# Altium schematic symbol library Schlib_OtherComponents.SchLib: 128 symbols
Pins are listed as number, name and electrical type; pins without a type are passive.

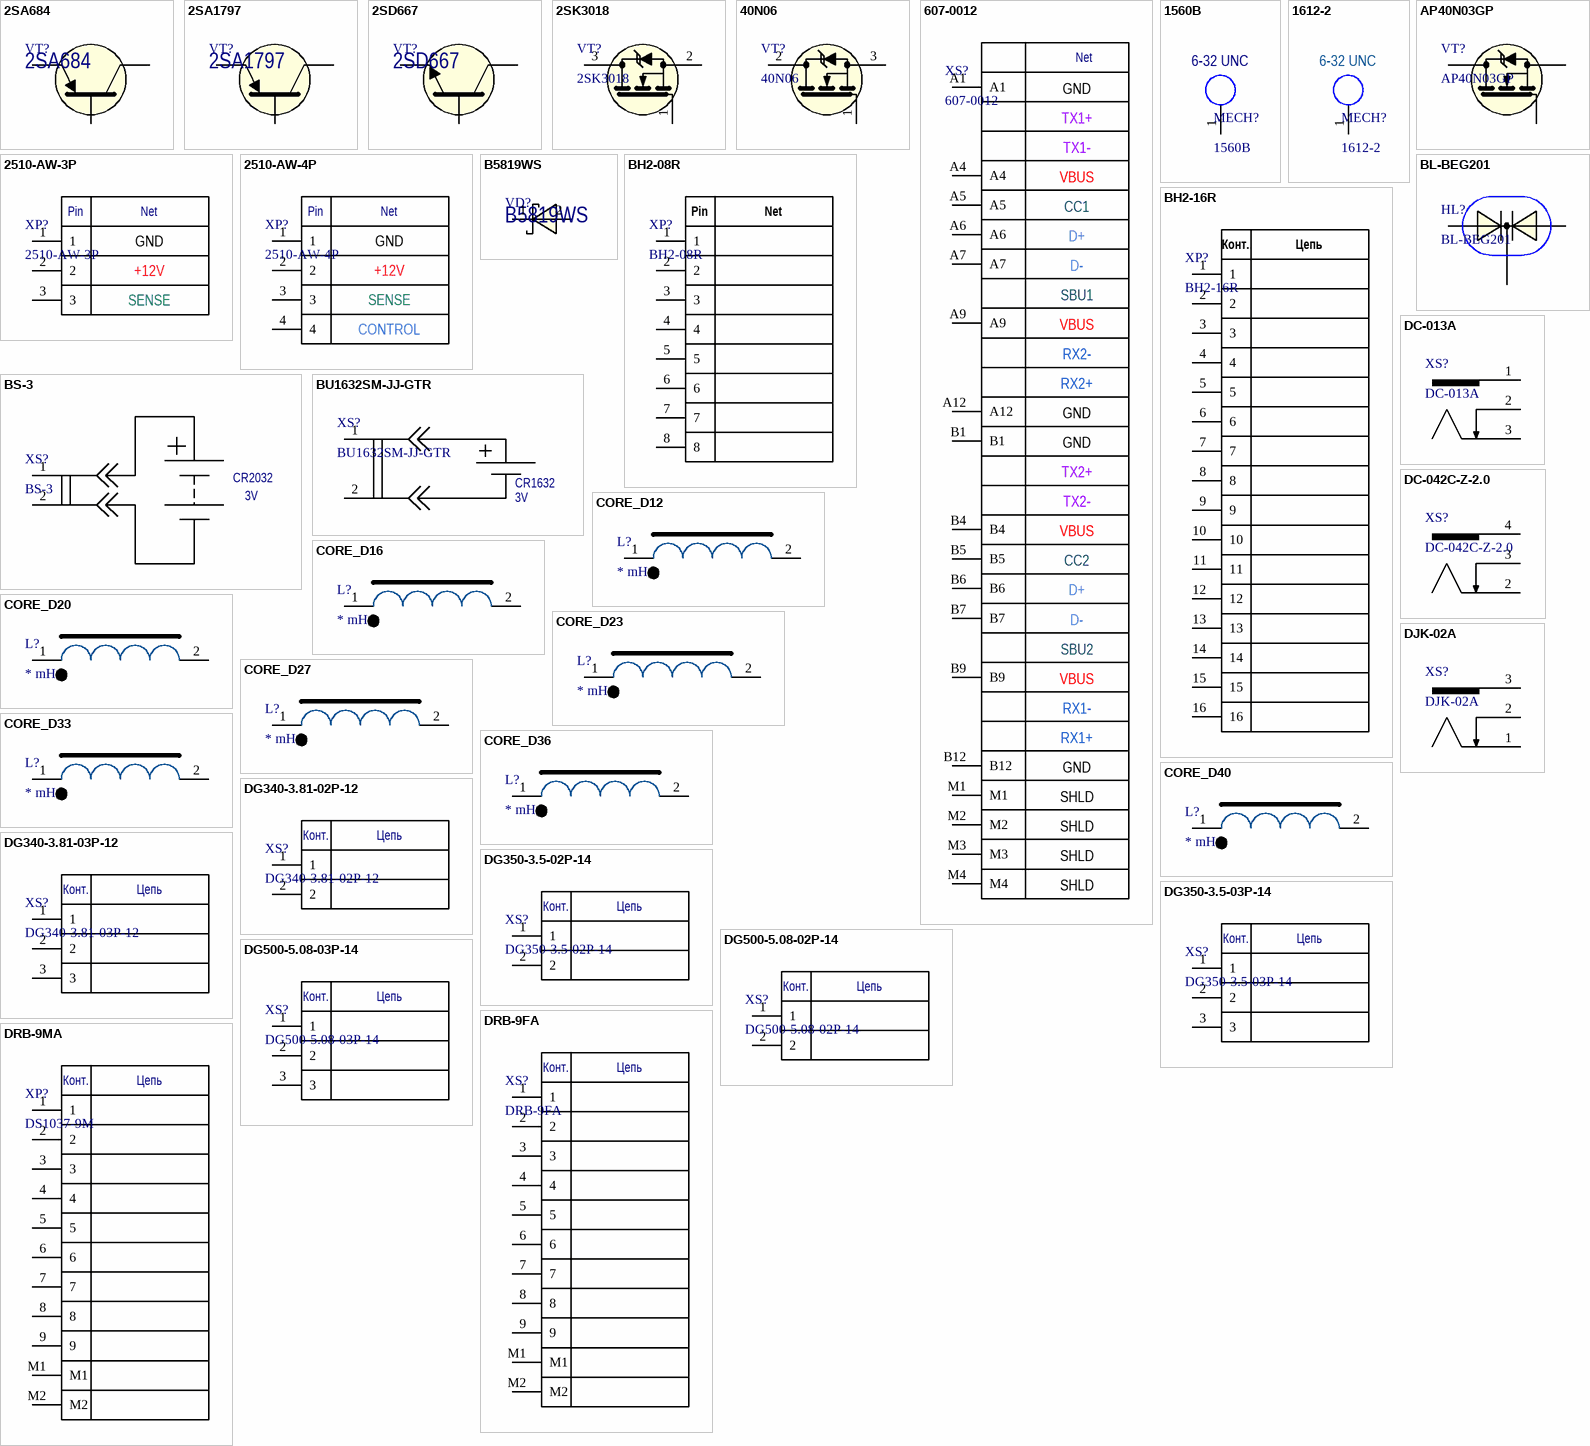
[diagram p0: symbols 2SA684 to DRB-9MA]

## 2SA684
designator VT?
General Purpose p-n-p Transistors -60V, -1A; Manufacturer: Secos; Package: TO-92L; Part Number: 2SA684
footprint TO-92L (VERTICAL,LINE)
pins: 1 E, 2 C, 3 B

## 2SA1797
designator VT?
General Purpose p-n-p Transistors -50V, -1A; Manufacturer: Secos; Package: SOT-89; Part Number: 2SA1797
footprint SOT89-3 (SOT89, 3-Leads, Body 4.50x2.45mm, Pitch 1.50mm, Lead Span 4.1mm, IPC Medium Density)
pins: 1 B, 2 C, 3 E

## 2SD667
designator VT?
General Purpose n-p-n Transistors 120V, 1A; Manufacturer: Secos; Package: TO-92L; Part Number: 2SD667
footprint TO-92L (VERTICAL,LINE)
pins: 1 E, 2 C, 3 B

## 2SK3018
designator VT?
N-Channel MOSFET,  30V, 100mA; Manufacturer: MCC; Part Number: 2SK3018; Package: SOT23-3
footprint SOT23-3 (SOT23, 6-Leads, Body 2.90x2.80mm, Pitch 0.95mm, IPC Medium Density)
pins: 1 G, 2 S, 3 D

## 40N06
designator VT?
N-Channel MOSFET,  60V, 40A; Manufacturer: UMW; Part Number: 40N06; Package: TO252-3
footprint TO-252-3 (D-PAK, 3-Pads, Body 6.15x6.66mm (max), IPC Medium Density)
pins: 1 G, 2 D, 3 S

## 607-0012
designator XS?
USB 2.0 Type C Female, 14P, 5A, 90° PCB Flag Mount TH. Repl KUSBX-SL-CS1N14-B; Manufacturer: MPSI; Part Number: 607-0012
footprint 607-0012 (USB 2.0 Type C Connector)
pins: A1, A4, A5, A6, A7, A9, A12, B1, B4, B5, B6, B7, B9, B12, M1, M2, M3, M4
text: Net; GND; TX1+; TX1-; VBUS; CC1; D+; D-; SBU1; RX2-; RX2+; TX2+; TX2-; CC2; SBU2; RX1-; RX1+; SHLD

## 1560B
designator MECH?  Thread: 6-32 UNC
Swage Threaded Standoffs 6-32 Thread x 0.250, H = 0.125; Manufacturer: Keystone; Part Number: 1560B
footprint 1560B (Swage Threaded Standoffs 6-32 UNC)
pins: 1

## 1612-2
designator MECH?  Thread: 6-32 UNC
Swage Threaded Standoffs 6-32 Thread x 0.250, H = 0.187; Manufacturer: Keystone; Part Number: 1612-2
footprint 1612-2 (Swage Threaded Standoffs 6-32 UNC)
footprint 1612-2_SLOT (Swage Threaded Standoffs 6-32 UNC)
pins: 1

## 2510-AW-3P
designator XP?
Reverse 3 pin fan connector; Part Number: 2510-AW-3P
footprint 2510-AW-3P
pins: 1, 2, 3
text: Pin; Net; GND; +12V; SENSE

## 2510-AW-4P
designator XP?
Reverse 4 pin fan connector; Part Number: 2510-AW-4P
footprint 2510-AW-4P
pins: 1, 2, 3, 4
text: Pin; Net; GND; +12V; SENSE; CONTROL

## AP40N03GP
designator VT?
N-Channel MOSFET,  30V, 40A; Manufacturer: Advanced Power Electronics Corp.; Part Number: AP40N03GP; Package: TO220-3
footprint TO-220-3
footprint TO-220-3 (hole mounting)
footprint TO-220A-3
footprint TO-220A-3 (HORIZONTAL)
pins: 1 G, 2 D, 3 S

## B5819WS
designator VD?
1A Schottky barrier rectifier; Manufacturer: SUNCOYJ; Package: SOD323; Part Number: B5819WS
footprint SOD-323
pins: 1, 2

## BH2-08R
designator XP?
BH2-08R pitch 2.00 mm; Manufacturer: RUICHI; Part Number: BH2-08R
footprint BH2-08R
pins: 1, 2, 3, 4, 5, 6, 7, 8
text: Pin; Net

## BH2-16R
designator XP?
BH2-16R pitch 2.00 mm; Manufacturer: RUICHI; Part Number: BH2-16R
footprint BH2-16R
pins: 1, 2, 3, 4, 5, 6, 7, 8, 9, 10, 11, 12, 13, 14, 15, 16
text: Конт.; Цепь

## BL-BEG201
designator HL?
Part Number: BL-BEG201
pins: 1, 2, 3

## BS-3
designator XS?  Size: CR2032  Voltage: 3V
Part Number: BS-3
footprint BS-3 (CR2032 battery holder)
pins: 1, 2

## BU1632SM-JJ-GTR
designator XS?  Size: CR1632  Voltage: 3V
CR1632 Holder; Manufacturer: Memory Protection Devices; Part Number: BU1632SM-JJ-GTR
footprint BU1632SM (CR1632 Holder)
pins: 1, 2

## CORE_D12
designator L?, comment * mH
Ferrite Core D12.7/7.62/4.75 mm; Core: D12; Value: * mH
footprint CORE_D12_GB (Core D12.7/7.62/4.75mm, Green-Blue)
footprint CORE_D12_YW (Core D12.7/7.62/4.75mm, Yellow-White)
pins: 1, 2

## CORE_D16
designator L?, comment * mH
Ferrite Core D16.6/10.2/6.35 mm; Core: D16; Value: * mH
footprint CORE_D16_GB (Core D16.6/10.2/6.35mm, Green-Blue)
footprint CORE_D16_YW (Core D16.6/10.2/6.35mm, Yellow-White)
pins: 1, 2

## CORE_D20
designator L?, comment * mH
Ferrite Core D20.3/12.7/6.35 mm; Core: D20; Value: * mH
footprint CORE_D20_GB (Core D20.3/12.7/6.35mm, Green-Blue)
footprint CORE_D20_YW (Core D20.3/12.7/6.35mm, Yellow-White)
pins: 1, 2

## CORE_D23
designator L?, comment * mH
Ferrite Core D22.9/14.0/7.62 mm; Core: D23; Value: * mH
footprint CORE_D23_GB (Core D22.9/14.0/7.62mm, Green-Blue)
footprint CORE_D23_YW (Core D22.9/14.0/7.62mm, Yellow-White)
pins: 1, 2

## CORE_D27
designator L?, comment * mH
Ferrite Core D26.9/14.7/11.2 mm; Core: D27; Value: * mH
footprint CORE_D27_GB (Core D26.9/14.7/11.2mm, Green-Blue)
footprint CORE_D27_YW (Core D26.9/14.7/11.2mm, Yellow-White)
pins: 1, 2

## CORE_D33
designator L?, comment * mH
Ferrite Core D32.8/20.1/10.7 mm; Core: D33; Value: * mH
footprint CORE_D33_GB (Core D32.8/20.1/10.7mm, Green-Blue)
footprint CORE_D33_YW (Core D32.8/20.1/10.7mm, Yellow-White)
pins: 1, 2

## CORE_D36
designator L?, comment * mH
Ferrite Core D35.8/22.4/10.5 mm; Core: D36; Value: * mH
footprint CORE_D36_GB (Core D35.8/22.4/10.5mm, Green-Blue)
footprint CORE_D36_YW (Core D35.8/22.4/10.5mm, Yellow-White)
pins: 1, 2

## CORE_D40
designator L?, comment * mH
Ferrite Core D39.9/24.1/14.5 mm; Core: D40; Value: * mH
footprint CORE_D40_GB (Core D39.9/24.1/14.5mm, Green-Blue)
footprint CORE_D40_YW (Core D39.9/24.1/14.5mm, Yellow-White)
pins: 1, 2

## DC-013A
designator XS?
Straight DC Power Receptacle Connector 2mm x 6.4mm; Part Number: DC-013A
footprint DC-013A
pins: 1, 2, 3

## DC-042C-Z-2.0
designator XS?
Shrouded DC Power Receptacle 2mm 6.3mm 8A 24V; Manufacturer: XKB Connectivity; Part Number: DC-042C-Z-2.0
footprint DC-042C-Z-2.0
pins: 2, 3, 4

## DG340-3.81-02P-12
designator XS?
2-way screw terminal, pitch 150mils (3.81mm); Manufacturer: DEGSON; Part Number: DG340-3.81-02P-12
footprint DG340-3.81-02P
pins: 1, 2
text: Конт.; Цепь

## DG340-3.81-03P-12
designator XS?
3-way screw terminal, pitch 150mils (3.81mm); Manufacturer: DEGSON; Part Number: DG340-3.81-03P-12
footprint DG340-3.81-03P
pins: 1, 2, 3
text: Конт.; Цепь

## DG350-3.5-02P-14
designator XS?
2-way screw terminal, pitch 3.5mm; Manufacturer: DEGSON; Part Number: DG350-3.5-02P-14
footprint DG350-3.5-02P-14
pins: 1, 2
text: Конт.; Цепь

## DG350-3.5-03P-14
designator XS?
3-way screw terminal, pitch 3.5mm; Manufacturer: DEGSON; Part Number: DG350-3.5-03P-14
footprint DG350-3.5-03P-14
pins: 1, 2, 3
text: Конт.; Цепь

## DG500-5.08-02P-14
designator XS?
2-way screw terminal, pitch 200mils (5.08mm); Manufacturer: DEGSON; Part Number: DG500-5.08-02P-14
footprint DG500-5.08-02P
pins: 1, 2
text: Конт.; Цепь

## DG500-5.08-03P-14
designator XS?
3-way screw terminal, pitch 200mils (5.08mm); Manufacturer: DEGSON; Part Number: DG500-5.08-03P-14
footprint DG500-5.08-03P
pins: 1, 2, 3
text: Конт.; Цепь

## DJK-02A
designator XS?
Part Number: DJK-02A
footprint DJK-02A
pins: 1, 2, 3

## DRB-9FA
designator XS?
Part Number: DRB-9FA
footprint DRB-9FB
pins: 1, 2, 3, 4, 5, 6, 7, 8, 9, M1, M2
text: Конт.; Цепь

## DRB-9MA
designator XP?, comment DS1037-9M
Manufacturer: Connfly Electronic; Part Number: DS1037-9M
footprint DRB- 9MA
pins: 1, 2, 3, 4, 5, 6, 7, 8, 9, M1, M2
text: Конт.; Цепь

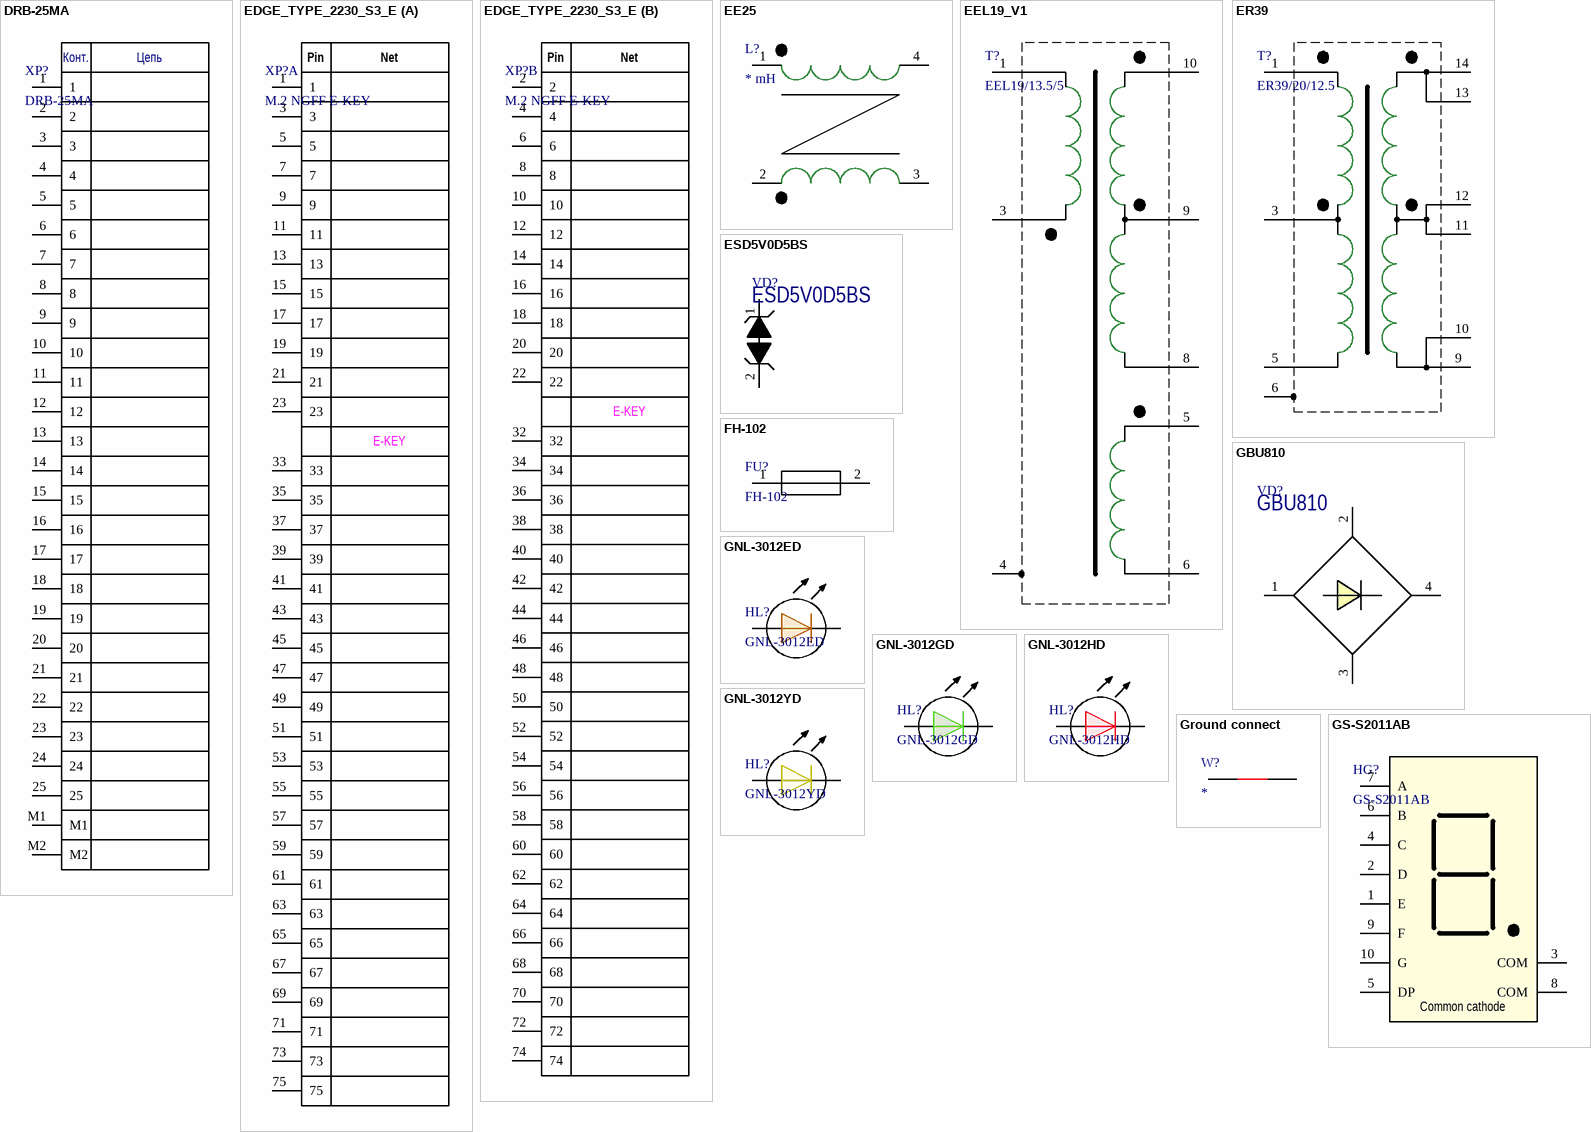
[diagram p1: symbols DRB-25MA to GS-S2011AB]

## DRB-25MA
designator XP?
Sub-D Connector 25 pin; Part Number: DRB-25MA
footprint DRB-25MA
pins: 1, 2, 3, 4, 5, 6, 7, 8, 9, 10, 11, 12, 13, 14, 15, 16, 17, 18, 19, 20, 21, 22, 23, 24, 25, M1, M2
text: Конт.; Цепь

## EDGE_TYPE_2230_S3_E
designator XP?, comment M.2 NGFF E-KEY  (no BOM)
M.2 NGFF E-KEY TYPE 2230-S3-E; Value: M.2 NGFF E-KEY
footprint EDGE_2230-S3-E (M.2 NGFF E-KEY EDGE)
part A pins: 1, 3, 5, 7, 9, 11, 13, 15, 17, 19, 21, 23, 33, 35, 37, 39, 41, 43, 45, 47, 49, 51, 53, 55, 57, 59, 61, 63, 65, 67, 69, 71, 73, 75
part B pins: 2, 4, 6, 8, 10, 12, 14, 16, 18, 20, 22, 32, 34, 36, 38, 40, 42, 44, 46, 48, 50, 52, 54, 56, 58, 60, 62, 64, 66, 68, 70, 72, 74
part A text: Pin; Net; E-KEY
part B text: Pin; Net; E-KEY

## EE25
designator L?, comment * mH
EE25 Ferrite Core inductor; Value: * mH; Core: EE25
footprint EE25/10/6 (Core EE25)
pins: 1, 2, 3, 4

## EEL19_V1
designator T?, comment EEL19/13.5/5
EEL19 Ferrite Core, 2 output; Value: EEL19/13.5/5
footprint EEL19/13.5/5 (Core EEL19)
pins: 1, 3, 4, 5, 6, 8, 9, 10

## ER39
designator T?, comment ER39/20/12.5
EE39 Ferrite Core, with footprint for ER35, EE33, EI33 etc.; Value: ER39/20/12.5
footprint ER39/20/12.5 (Core ER39)
footprint ER39/20/12.5_WITH22.5_SLOTS (Core ER39)
pins: 1, 3, 5, 6, 9, 10, 11, 12, 13, 14

## ESD5V0D5BS
designator VD?
1-Line, Bi-directional, Transient Voltage Suppressor; Manufacturer: SUNCOYJ; Package: SOD-523; Part Number: ESD5V0D5BS
footprint SOD-523
pins: 1 M, 2 AC1

## FH-102
designator FU?
Fuse holder 5.2х20mm; Package: Dragon City; Part Number: FH-102
footprint FH-102
pins: 1, 2

## GBU810
designator VD?
8A single phase bridge rectifier; Manufacturer: Diodes Incorporated; Package: GBU; Part Number: GBU810
footprint GBU810
pins: 1 M, 2 AC1, 3 AC2, 4 P

## GNL-3012ED
designator HL?
Standard Brightness 3mm LED; Manufacturer: G-Nor Optoelectronics; Color: Orange, 635 nm; Package: 3mm; Part Number: GNL-3012ED
footprint GNL-3012ED (3mm Standard Brightness LED)
pins: 1, 2

## GNL-3012GD
designator HL?
Standard Brightness 3mm LED; Manufacturer: G-Nor Optoelectronics; Color: Green, 565 nm; Package: 3mm; Part Number: GNL-3012GD
footprint GNL-3012GD (3mm Standard Brightness LED)
pins: 1, 2

## GNL-3012HD
designator HL?
Standard Brightness 3mm LED; Manufacturer: G-Nor Optoelectronics; Color: Red, 700 nm; Package: 3mm; Part Number: GNL-3012HD
footprint GNL-3012HD (3mm Standard Brightness LED)
pins: 1, 2

## GNL-3012YD
designator HL?
Standard Brightness 3mm LED; Manufacturer: G-Nor Optoelectronics; Color: Yellow, 585 nm; Package: 3mm; Part Number: GNL-3012YD
footprint GNL-3012YD (3mm Standard Brightness LED)
pins: 1, 2

## Ground connect
designator W?  (net tie, no BOM)
footprint GND_TIE
pins: 1, 2

## GS-S2011AB
designator HG?
Part Number: GS-S2011AB
footprint GS-S2011AB
pins: 1 E, 2 D, 3 COM, 4 C, 5 DP, 6 B, 7 A, 8 COM, 9 F, 10 G
text: Common cathode

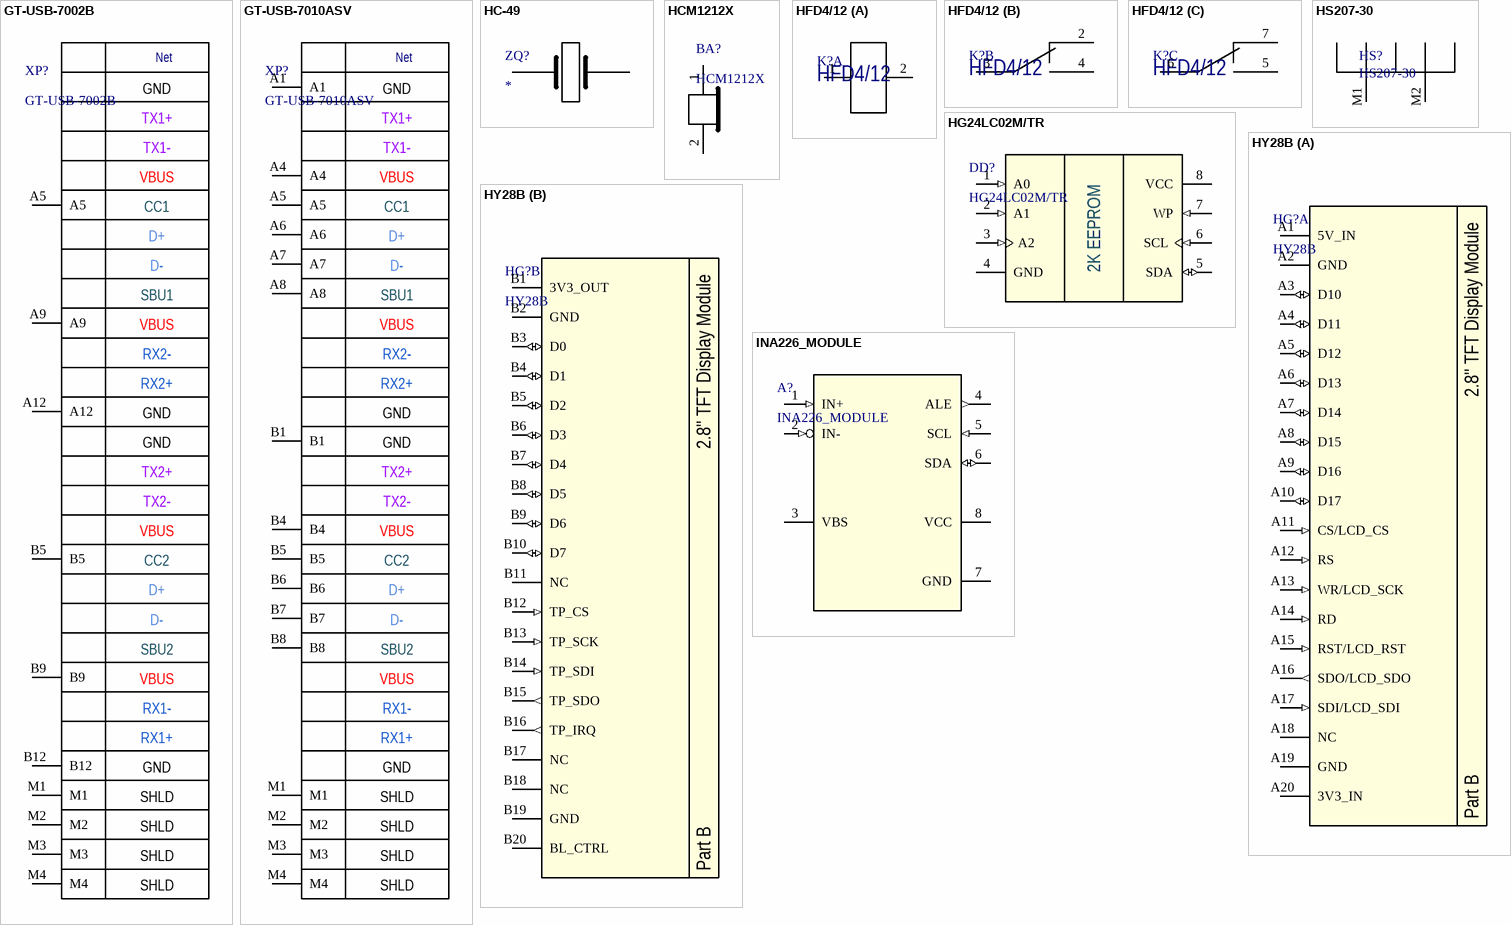
[diagram p2: symbols GT-USB-7002B to INA226_MODULE]

## GT-USB-7002B
designator XP?
USB 2.0 5A 1 Surface Mount 6P Female; Manufacturer: G-Switch; Part Number: GT-USB-7002B
footprint GT-USB-7002B (USB 2.0 TYPE C)
pins: A5, A9, A12, B5, B9, B12, M1, M2, M3, M4
text: Net; GND; TX1+; TX1-; VBUS; CC1; D+; D-; SBU1; RX2-; RX2+; TX2+; TX2-; CC2; SBU2; RX1-; RX1+; SHLD

## GT-USB-7010ASV
designator XP?
USB 2.0 Female 3A Surface 16P; Manufacturer: G-Switch; Part Number: GT-USB-7010ASV
footprint GT-USB-7010ASV (USB 2.0 TYPE C)
pins: A1, A4, A5, A6, A7, A8, B1, B4, B5, B6, B7, B8, M1, M2, M3, M4
text: Net; GND; TX1+; TX1-; VBUS; CC1; D+; D-; SBU1; RX2-; RX2+; TX2+; TX2-; CC2; SBU2; RX1-; RX1+; SHLD

## HC-49
designator ZQ?
Crystal resonator; Package: HC-49; Part Number: *
footprint HC-49/US
footprint HC-49S
footprint HC-49U (HORIZONTAL)
footprint HC-49U (HORIZONTAL, SOLDER)
footprint HC-49U (VERTICAL)
footprint HC-49/US_With_Hole
pins: 1 XTAL0, 2 XTAL1

## HCM1212X
designator BA?
AUDIO MAGNETIC INDICATOR 12V; Manufacturer: Jl World; Frequency: 2.3kHz; Current Supply: 30mA; Input Type: DC; Part Number: HCM1212X; Voltage Range: 12V
footprint HCM1212X
pins: 1, 2

## HFD4/12
designator K?
Subminature signal relay; Manufacturer: Hongfa; Coil Voltage: 12V; Coil Resistance: 1028 Ohm; Package: 10mm x 6.5mm; Part Number: HFD4/12
footprint HFD4
part A pins: 1, 2
part B pins: 2, 3, 4
part C pins: 5, 6, 7

## HG24LC02M/TR
designator DD?
2K I2C Serial EEPROM; Manufacturer: HGSemi; Package: SOIC-8; Part Number: HG24LC02M/TR
footprint SOIC-8 (SOIC-8 package)
footprint SOIC-8_with_DIP-8 (Plastic DIP, 8 pin, lead pitch 2.54mm (0.1"), row spacing 7.62mm (0.3").)
footprint SOIC-8_with_SOT23-5 (SOIC-8 package for EEPROM)
pins: 1 A0 (in), 2 A1 (in), 3 A2 (in), 4 GND (power), 5 SDA (io), 6 SCL (in), 7 WP (in), 8 VCC (power)
text: 2K EEPROM

## HS207-30
designator HS?
Heatsink 35x30x10mm; Part Number: HS207-30
footprint HS207-30 (HEATSINK 35X30X12MM)
pins: M1, M2

## HY28B
designator HG?
Part Number: HY28B
footprint HY28A
part A pins: A1 5V_IN (power), A2 GND (power), A3 D10 (io), A4 D11 (io), A5 D12 (io), A6 D13 (io), A7 D14 (io), A8 D15 (io), A9 D16 (io), A10 D17 (io), A11 CS/LCD_CS (in), A12 RS (in), A13 WR/LCD_SCK (in), A14 RD (in), A15 RST/LCD_RST (in), A16 SDO/LCD_SDO (out), A17 SDI/LCD_SDI (in), A18 NC (hiz), A19 GND (power), A20 3V3_IN (power)
part B pins: B1 3V3_OUT (power), B2 GND (power), B3 D0 (io), B4 D1 (io), B5 D2 (io), B6 D3 (io), B7 D4 (io), B8 D5 (io), B9 D6 (io), B10 D7 (io), B11 NC (hiz), B12 TP_CS (in), B13 TP_SCK (in), B14 TP_SDI (in), B15 TP_SDO (out), B16 TP_IRQ (out), B17 NC (hiz), B18 NC (hiz), B19 GND (power), B20 BL_CTRL (power)
part A text: 2.8'' TFT Display Module; Part B
part B text: 2.8'' TFT Display Module; Part B

## INA226_MODULE
designator A?
20x20mm module with INA226; Part Number: INA226_MODULE
footprint INA226_MODULE (Module 20x20mm with INA226)
footprint INA226_MODULE_VERT (Module 20x20mm with INA226)
pins: 1 IN+ (in), 2 IN- (in), 3 VBS, 4 ALE (out), 5 SCL (in), 6 SDA (io), 7 GND (power), 8 VCC (power)

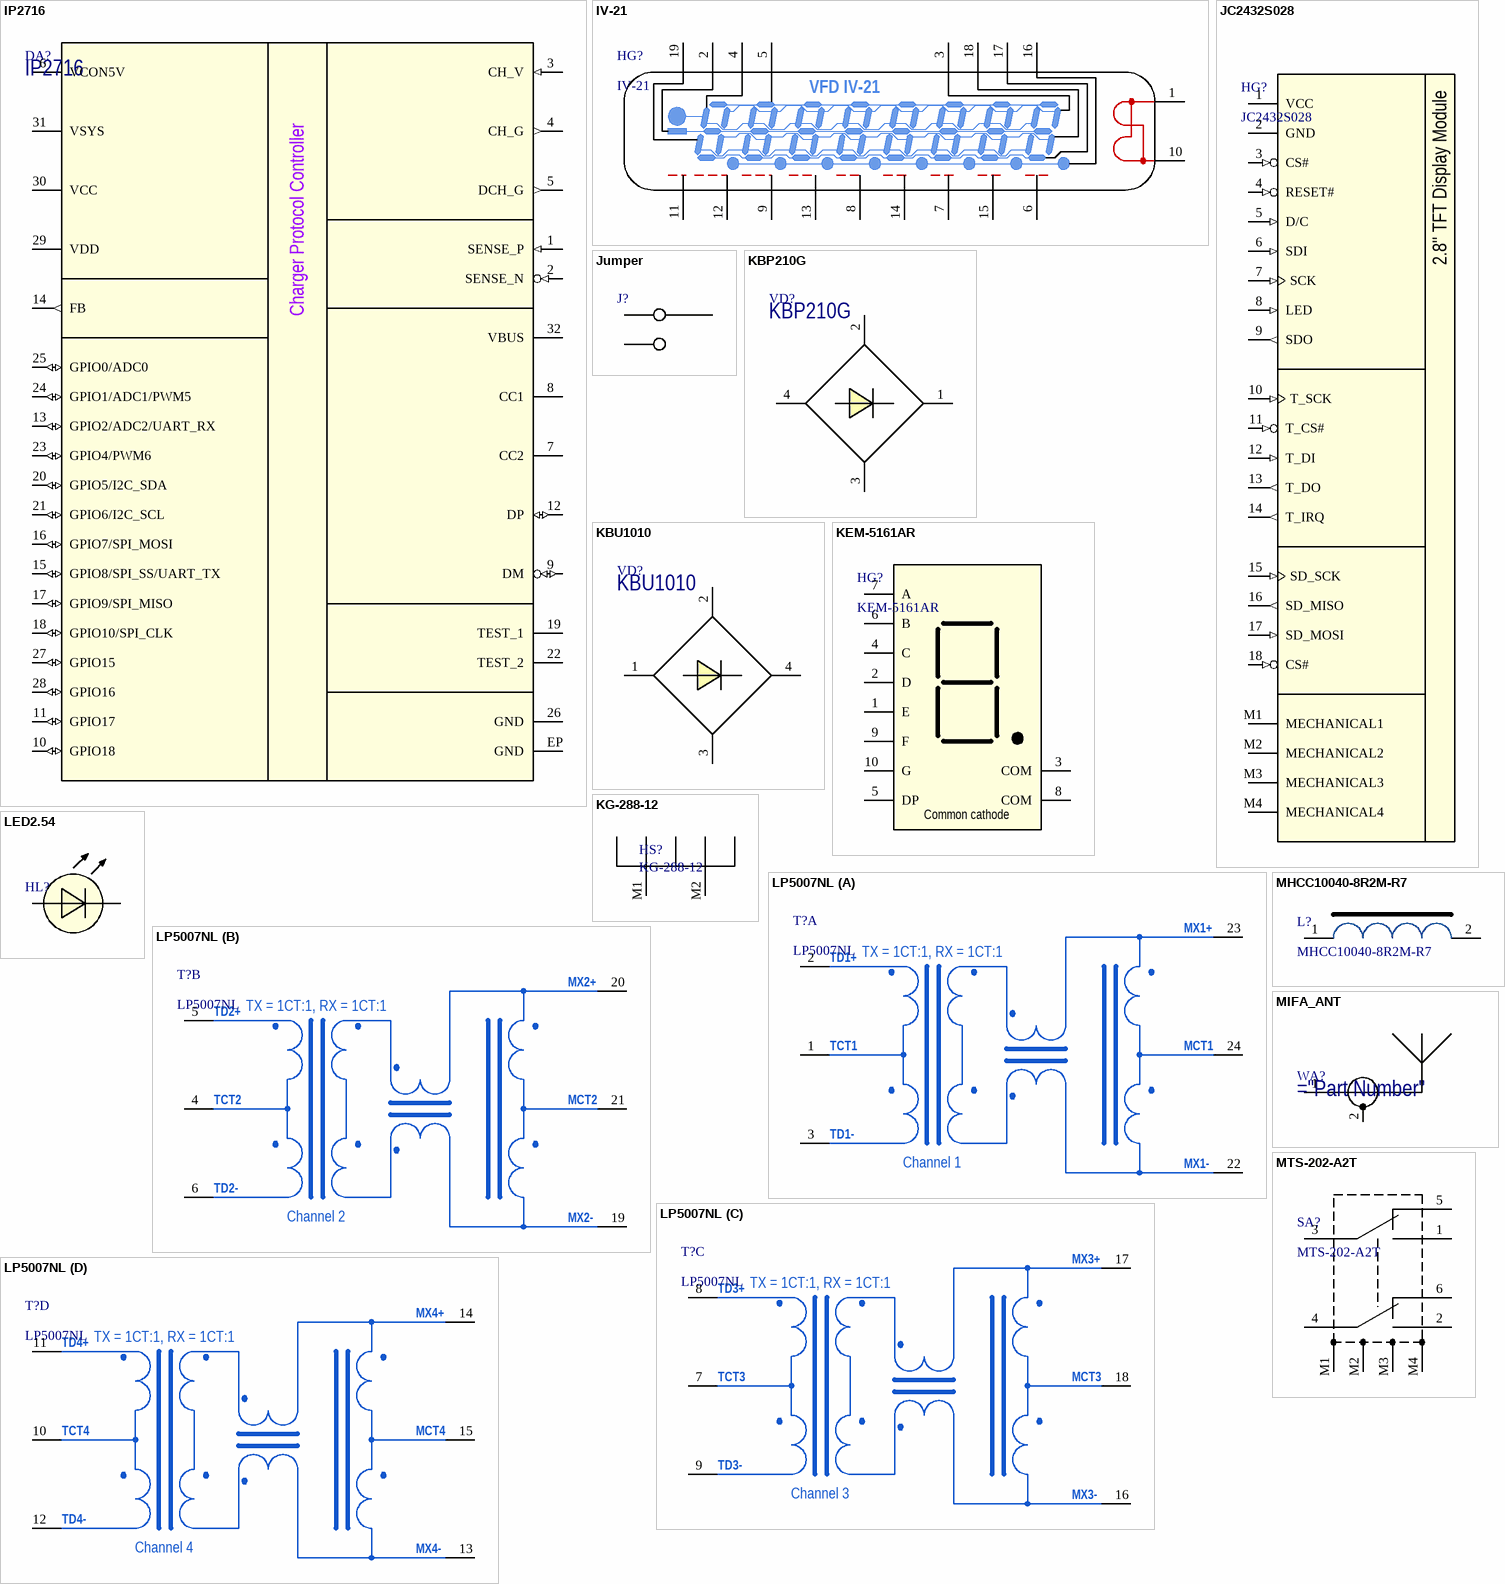
[diagram p3: symbols IP2716 to MTS-202-A2T]

## IP2716
designator DA?
USB TYPE-C PD3.0, QC3.0/2.0/MTK High Voltage Charger Protocol Controller; Manufacturer: Injoinic Technology; Package: QFN32; Part Number: IP2716
footprint QFN32_IP2716 (QFN, 32-Leads, Body 5.00x5.00mm, Pitch 0.50mm, Thermal Pad 3.50x3.50mm, IPC Medium Density)
pins: 1 SENSE_P (in), 2 SENSE_N (in), 3 CH_V (in), 4 CH_G (out), 5 DCH_G (out), 6 VCON5V (power), 7 CC2, 8 CC1, 9 DM (io), 10 GPIO18 (io), 11 GPIO17 (io), 12 DP (io), 13 GPIO2/ADC2/UART_RX (io), 14 FB (out), 15 GPIO8/SPI_SS/UART_TX (io), 16 GPIO7/SPI_MOSI (io), 17 GPIO9/SPI_MISO (io), 18 GPIO10/SPI_CLK (io), 19 TEST_1, 20 GPIO5/I2C_SDA (io), 21 GPIO6/I2C_SCL (io), 22 TEST_2, 23 GPIO4/PWM6 (io), 24 GPIO1/ADC1/PWM5 (io), 25 GPIO0/ADC0 (io), 26 GND (power), 27 GPIO15 (io), 28 GPIO16 (io), 29 VDD (power), 30 VCC (power), 31 VSYS (power), 32 VBUS (power), EP GND (power)
text: Charger Protocol Controller

## IV-21
designator HG?
VFD IV-21; Package: IV-21; Part Number: IV-21
footprint IV-21
pins: 1, 2, 3, 4, 5, 6, 7, 8, 9, 10, 11, 12, 13, 14, 15, 16, 17, 18, 19

## JC2432S028
designator HG?
2.8 inch LCD display, ILI9341; Part Number: JC2432S028
footprint JC2432S028
pins: 1 VCC (power), 2 GND (power), 3 CS# (in), 4 RESET# (in), 5 D/C (in), 6 SDI (in), 7 SCK (in), 8 LED (in), 9 SDO (out), 10 T_SCK (in), 11 T_CS# (in), 12 T_DI (in), 13 T_DO (out), 14 T_IRQ (out), 15 SD_SCK (in), 16 SD_MISO (out), 17 SD_MOSI (in), 18 CS# (in), M1 MECHANICAL1 (hiz), M2 MECHANICAL2 (hiz), M3 MECHANICAL3 (hiz), M4 MECHANICAL4 (hiz)
text: 2.8'' TFT Display Module

## Jumper
designator J?  (value not drawn)  (net tie, no BOM)
Jumper
footprint Jumper
footprint Jumper_SDMMC
footprint Jumper0603
pins: 1, 2, 3

## KBP210G
designator VD?
2A single phase bridge rectifier; Manufacturer: Diodes Incorporated; Package: KBP; Part Number: KBP210G
footprint KBP210G
pins: 1 M, 2 AC1, 3 AC2, 4 P

## KBU1010
designator VD?
10A single phase bridge rectifier; Manufacturer: Won-Top Electronics; Package: KBU; Part Number: KBU1010
footprint KBU1010
pins: 1 M, 2 AC1, 3 AC2, 4 P

## KEM-5161AR
designator HG?
Part Number: KEM-5161AR
footprint KEM-5161AR (7 segment indicator)
pins: 1 E, 2 D, 3 COM, 4 C, 5 DP, 6 B, 7 A, 8 COM, 9 F, 10 G
text: Common cathode

## KG-288-12
designator HS?
Heatsink 35x30x10mm; Part Number: KG-288-12
footprint KG-288-12 (HEATSINK 20x40x20MM)
pins: M1, M2

## LED2.54
designator HL?
Through hole mounting LED flat top; Designator: HL*; Package: Flat top, 2.54mm
footprint LED2.54 (Led, 2.54mm)
pins: 1, 2

## LP5007NL
designator T?
1000BASE-T Magnetics Modules; Manufacturer: Link-PP; AltManufacturer: Pulse Electronics; Alternative: H5007NL; Part Number: LP5007NL
footprint LP5007NL
part A pins: 1 TCT1, 2 TD1+, 3 TD1-, 22 MX1-, 23 MX1+, 24 MCT1
part B pins: 4 TCT2, 5 TD2+, 6 TD2-, 19 MX2-, 20 MX2+, 21 MCT2
part C pins: 7 TCT3, 8 TD3+, 9 TD3-, 16 MX3-, 17 MX3+, 18 MCT3
part D pins: 10 TCT4, 11 TD4+, 12 TD4-, 13 MX4-, 14 MX4+, 15 MCT4
part A text: TX = 1CT:1, RX = 1CT:1; Channel 1
part B text: TX = 1CT:1, RX = 1CT:1; Channel 2
part C text: TX = 1CT:1, RX = 1CT:1; Channel 3
part D text: TX = 1CT:1, RX = 1CT:1; Channel 4

## MHCC10040-8R2M-R7
designator L?
Shielded SMD Power Inductor; Manufacturer: Chilisin Elec; RDC: 30 mOhm; Irms Typ: 6 A; Isat Typ: 9 A; Inductance @ 100 kHz: 8.2 uH; Part Number: MHCC10040-8R2M-R7; Package: 10.1x11.6x4 mm
footprint MHCC10040
pins: 1, 2

## MIFA_ANT
designator WA?
MIFA Antenna
footprint MIFA_Antenna
pins: 1 ANT, 2 GND

## MTS-202-A2T
designator SA?
Switch; Manufacturer: RUICHI; Part Number: MTS-202-A2T
footprint MTS-202-A2T
pins: 1, 2, 3, 4, 5, 6, M1, M2, M3, M4

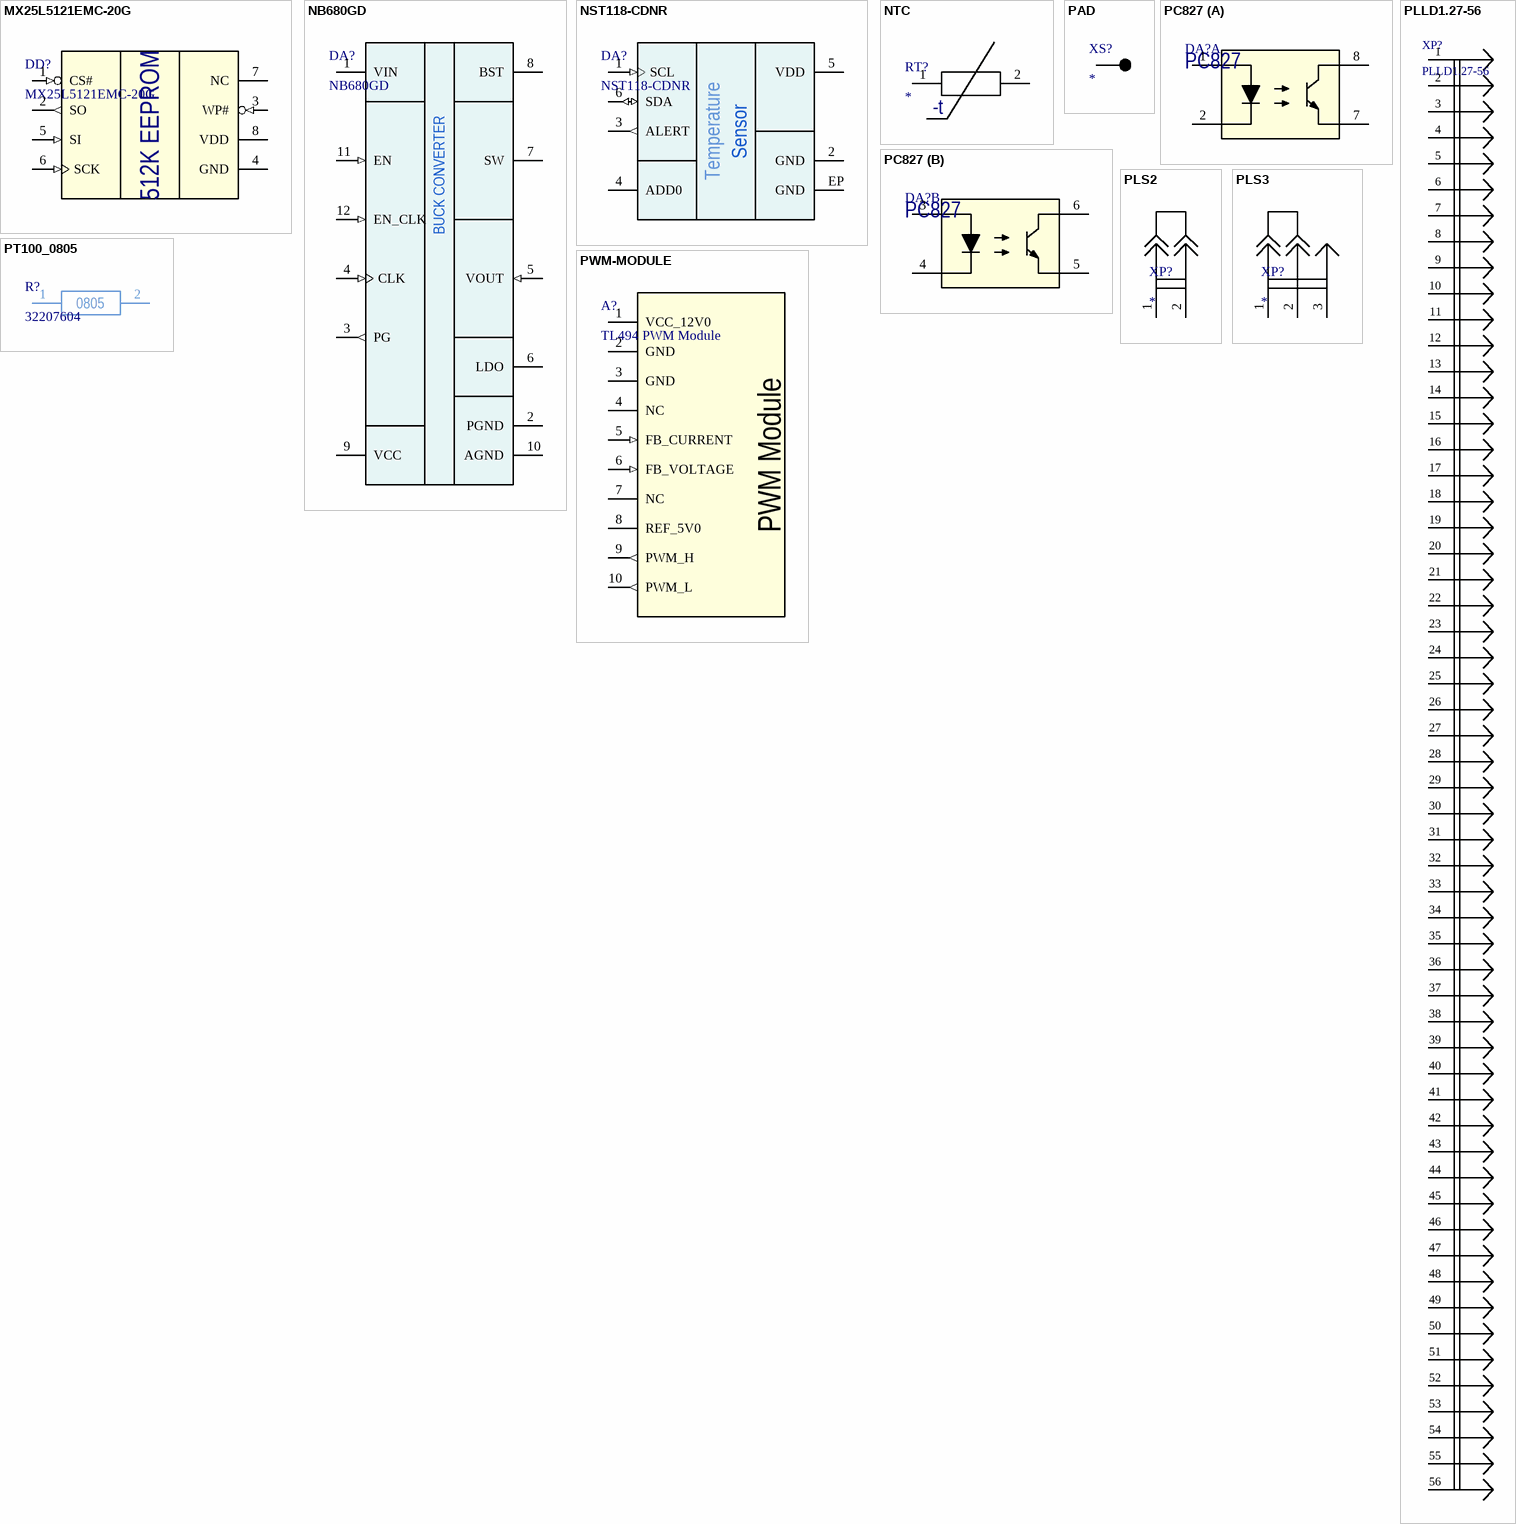
[diagram p4: symbols MX25L5121EMC-20G to PWM-MODULE]

## MX25L5121EMC-20G
designator DD?
512K-BIT [x1] Cmos Serial Flash Memory; Manufacturer: Macronix; Part Number: MX25L5121EMC-20G; Package: SOIC-8
footprint SOIC-8 (SOIC-8 package)
pins: 1 CS# (in), 2 SO (out), 3 WP# (in), 4 GND (power), 5 SI (in), 6 SCK (in), 7 NC (hiz), 8 VDD (power)
text: 512K EEPROM

## NB680GD
designator DA?
28V VIN, FIXED 3.3V-8A BUCK CONVERTER WITH LDO; Manufacturer: Monolithic Power; Part Number: NB680GD; Package: QFN-12
footprint QFN12_NB680GD (Power QFN 2mm x 3mm)
pins: 1 VIN (power), 2 PGND (power), 3 PG (out), 4 CLK (in), 5 VOUT (in), 6 LDO (power), 7 SW (power), 8 BST (power), 9 VCC (power), 10 AGND (power), 11 EN (in), 12 EN_CLK (in)
text: BUCK CONVERTER

## NST118-CDNR
designator DA?
High-Accuracy, Low-Power Temperature Sensor with SMBus and I2C Interface; Manufacturer: Novosense; Part Number: NST118-CDNR; Package: DFN-6
footprint DFN-6_NST118 (DFN 2mm x 2mm)
pins: 1 SCL (in), 2 GND (power), 3 ALERT (out), 4 ADD0, 5 VDD (power), 6 SDA (io), EP GND (power)
text: Temperature; Sensor

## NTC
designator RT?
NTC thermistors; Package: *; Part Number: *
footprint NTC_D8 (NTC thermistors D = 8mm)
footprint NTC_D10 (NTC thermistors D = 10mm)
footprint NTC_D13 (NTC thermistors D = 13mm)
footprint NTC_D15 (NTC thermistors D = 15mm)
pins: 1, 2
text: -t

## PAD
designator XS?  (net tie, no BOM)
Value: Contact
footprint PAD_WIRE_0.12
pins: 1

## PC827
designator DA?
High Density Mounting Type Photocoupler; Manufacturer: Sharp; Package: DIP-8; Part Number: PC827
footprint DIP-8P-M01 (Plastic DIP, 8 pin, lead pitch 2.54mm (0.1"), row spacing 7.62mm (0.3").)
part A pins: 1 ANODE1, 2 CATHODE1 (power), 7 EMITTER1, 8 COLLECTOR1
part B pins: 3 ANODE2, 4 CATHODE2 (power), 5 EMITTER2, 6 COLLECTOR2

## PLLD1.27-56
designator XP?
Value: PLLD1.27-56
footprint PLLD1.27-56
pins: 1, 2, 3, 4, 5, 6, 7, 8, 9, 10, 11, 12, 13, 14, 15, 16, 17, 18, 19, 20, 21, 22, 23, 24, 25, 26, 27, 28, 29, 30, 31, 32, 33, 34, 35, 36, 37, 38, 39, 40, 41, 42, 43, 44, 45, 46, 47, 48, 49, 50, 51, 52, 53, 54, 55, 56

## PLS2
designator XP?
Value: PLS2
footprint PLS-2
pins: 1, 2

## PLS3
designator XP?
Value: PLS3
footprint PLS-3
pins: 1, 2, 3

## PT100_0805
designator R?, comment 32207604  Package: 0805
Pt Temperature Sensor; Manufacturer: Yageo Nexensos; Value: Pt100; Part Number: 32207604
footprint PT100_0805 (Pt Temperature Sensor, 0805)
pins: 1, 2

## PWM-MODULE
designator A?, comment TL494 PWM Module
Value: TL494 PWM Module
footprint PWM-TL494
pins: 1 VCC_12V0, 2 GND, 3 GND, 4 NC, 5 FB_CURRENT (in), 6 FB_VOLTAGE (in), 7 NC, 8 REF_5V0, 9 PWM_H (out), 10 PWM_L (out)
text: PWM Module

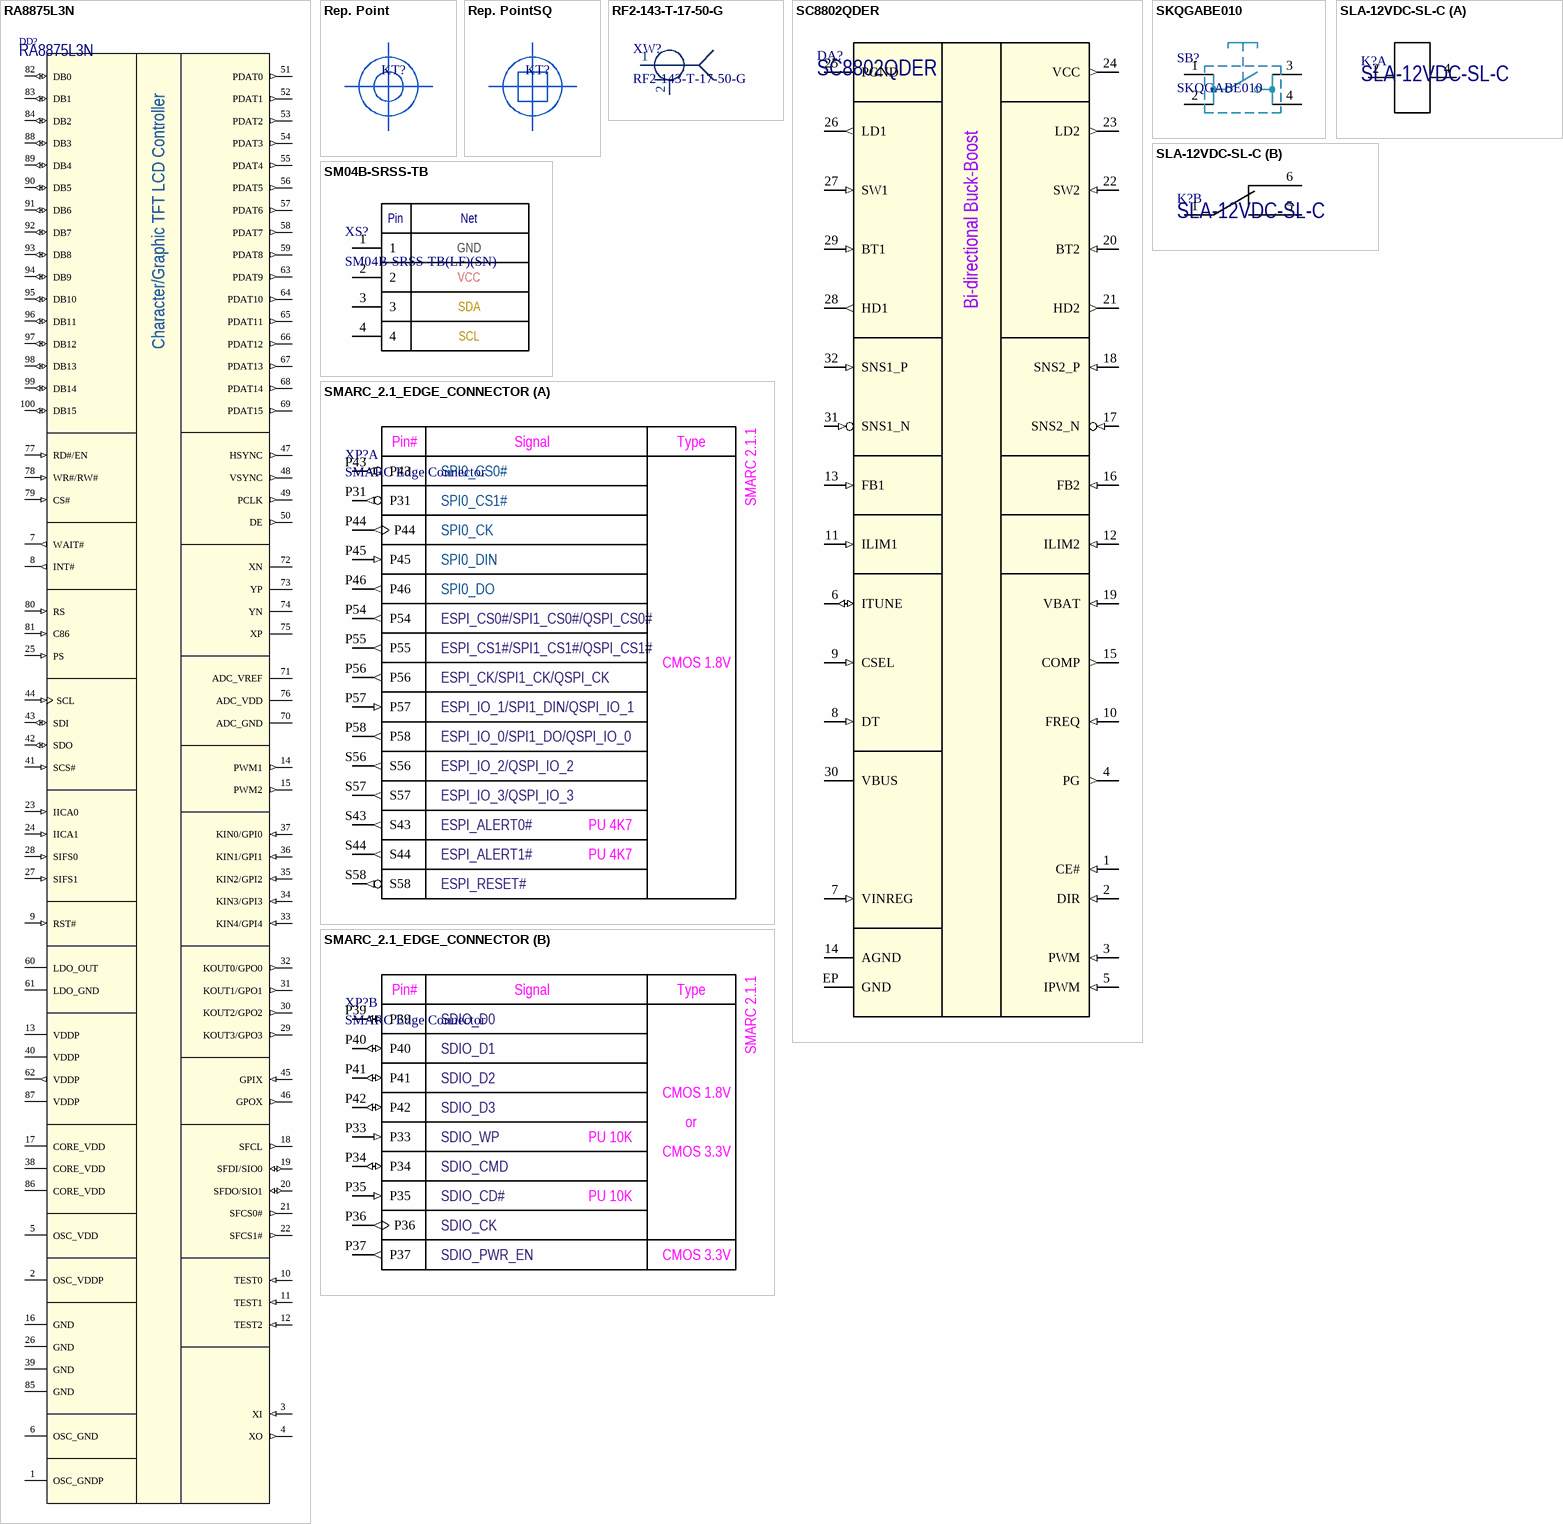
[diagram p5: symbols RA8875L3N to SMARC_2.1_EDGE_CONNECTOR]

## RA8875L3N
designator DD?
Character/Graphic TFT LCD Controller; Manufacturer: RAiO Technology Inc.; Package: LQFP-100; Part Number: RA8875L3N
footprint LQFP-100 (TSQFP, 100-Leads, Body 14,00x14,00mm, Pitch 0,50mm, IPC Medium Density)
pins: 1 OSC_GNDP (power), 2 OSC_VDDP (power), 3 XI (in), 4 XO (out), 5 OSC_VDD (power), 6 OSC_GND (power), 7 WAIT# (out), 8 INT# (out), 9 RST# (in), 10 TEST0 (in), 11 TEST1 (in), 12 TEST2 (in), 13 VDDP (power), 14 PWM1 (out), 15 PWM2 (out), 16 GND (power), 17 CORE_VDD (power), 18 SFCL (out), 19 SFDI/SIO0 (io), 20 SFDO/SIO1 (io), 21 SFCS0# (out), 22 SFCS1# (out), 23 IICA0 (in), 24 IICA1 (in), 25 PS (in), 26 GND (power), 27 SIFS1 (in), 28 SIFS0 (in), 29 KOUT3/GPO3 (out), 30 KOUT2/GPO2 (out), 31 KOUT1/GPO1 (out), 32 KOUT0/GPO0 (out), 33 KIN4/GPI4 (in), 34 KIN3/GPI3 (in), 35 KIN2/GPI2 (in), 36 KIN1/GPI1 (in), 37 KIN0/GPI0 (in), 38 CORE_VDD (power), 39 GND (power), 40 VDDP (power), 41 SCS# (in), 42 SDO (io), 43 SDI (io), 44 SCL (in), 45 GPIX (in), 46 GPOX (out), 47 HSYNC (out), 48 VSYNC (out), 49 PCLK (out), 50 DE (out), 51 PDAT0 (out), 52 PDAT1 (out), 53 PDAT2 (out), 54 PDAT3 (out), 55 PDAT4 (out), 56 PDAT5 (out), 57 PDAT6 (out), 58 PDAT7 (out), 59 PDAT8 (out), 60 LDO_OUT (power), 61 LDO_GND (power), 62 VDDP (out), 63 PDAT9 (out), 64 PDAT10 (out), 65 PDAT11 (out), 66 PDAT12 (out), 67 PDAT13 (out), 68 PDAT14 (out), 69 PDAT15 (out), 70 ADC_GND (power), 71 ADC_VREF, 72 XN, 73 YP, 74 YN, 75 XP, 76 ADC_VDD (power), 77 RD#/EN (in), 78 WR#/RW# (in), 79 CS# (in), 80 RS (in), 81 C86 (in), 82 DB0 (io), 83 DB1 (io), 84 DB2 (io), 85 GND (power), 86 CORE_VDD (power), 87 VDDP (power), 88 DB3 (io), 89 DB4 (io), 90 DB5 (io), 91 DB6 (io), 92 DB7 (io), 93 DB8 (io), 94 DB9 (io), 95 DB10 (io), 96 DB11 (io), 97 DB12 (io), 98 DB13 (io), 99 DB14 (io), 100 DB15 (io)

## Rep. Point
designator KT?  (no BOM)
Rep. Point
footprint Rep_1mm (Swage Threaded Standoffs 6-32 UNC)
pins: 1

## Rep. PointSQ
designator KT?  (no BOM)
Rep. Point
footprint Rep_1mmSQ (Rep. Point 1mm)
pins: 1

## RF2-143-T-17-50-G
designator XW?
SMA Jack edge mount connector; Manufacturer: Adam Tech; Impedance: 50; Frequency range: DC - 18GHz; Part Number: RF2-143-T-17-50-G
footprint RF2-143-T-17-50-G (SMA Connector)
pins: 1, 2

## SC8802QDER
designator DA?
High Efficiency, Synchronous, Bi-directional Buck-Boost Charger; Manufacturer: Southchip; Package: QFN32; Part Number: SC8802QDER
footprint QFN32-0.4 (QFN, 32-Leads, Body 4,00x4,00mm, Pitch 0,40mm, Thermal Pad 2,80x2,80mm, IPC Medium Density)
pins: 1 CE# (in), 2 DIR (in), 3 PWM (in), 4 PG (out), 5 IPWM (in), 6 ITUNE (io), 7 VINREG (in), 8 DT (in), 9 CSEL (in), 10 FREQ (in), 11 ILIM1 (in), 12 ILIM2 (in), 13 FB1 (in), 14 AGND (power), 15 COMP (out), 16 FB2 (in), 17 SNS2_N (in), 18 SNS2_P (in), 19 VBAT (in), 20 BT2 (in), 21 HD2 (out), 22 SW2 (in), 23 LD2 (out), 24 VCC (out), 25 PGND (power), 26 LD1 (out), 27 SW1 (in), 28 HD1 (out), 29 BT1 (in), 30 VBUS (power), 31 SNS1_N (in), 32 SNS1_P (in), EP GND (power)
text: Bi-directional Buck-Boost

## SKQGABE010
designator SB?
Low-Profile Tactile Switch MSLPT; Manufacturer: Alpsalpine; Part Number: SKQGABE010
footprint SKQGAB
pins: 1, 2, 3, 4

## SLA-12VDC-SL-C
designator K?
Subminature high power relay 4P 30A; Manufacturer: Songle Relay; Coil Power Dissipation: 0.9W; Coil Current: 12V@75mA; Coil Resistance: 160 Ohm; Package: 32mm x 27.5mm; Part Number: SLA-12VDC-SL-C
footprint RELAY_32x27.5MM
part A pins: 2, 4
part B pins: 1, 5, 6

## SM04B-SRSS-TB
designator XS?, comment SM04B-SRSS-TB(LF)(SN)
CONNECTOR, HEADER, SMT, R/A, 1MM, 4WAY; Manufacturer: JST; Part Number: SM04B-SRSS-TB(LF)(SN)
footprint SM04B-SRSS-TB
pins: 1, 2, 3, 4
text: Pin; Net; GND; VCC; SDA; SCL

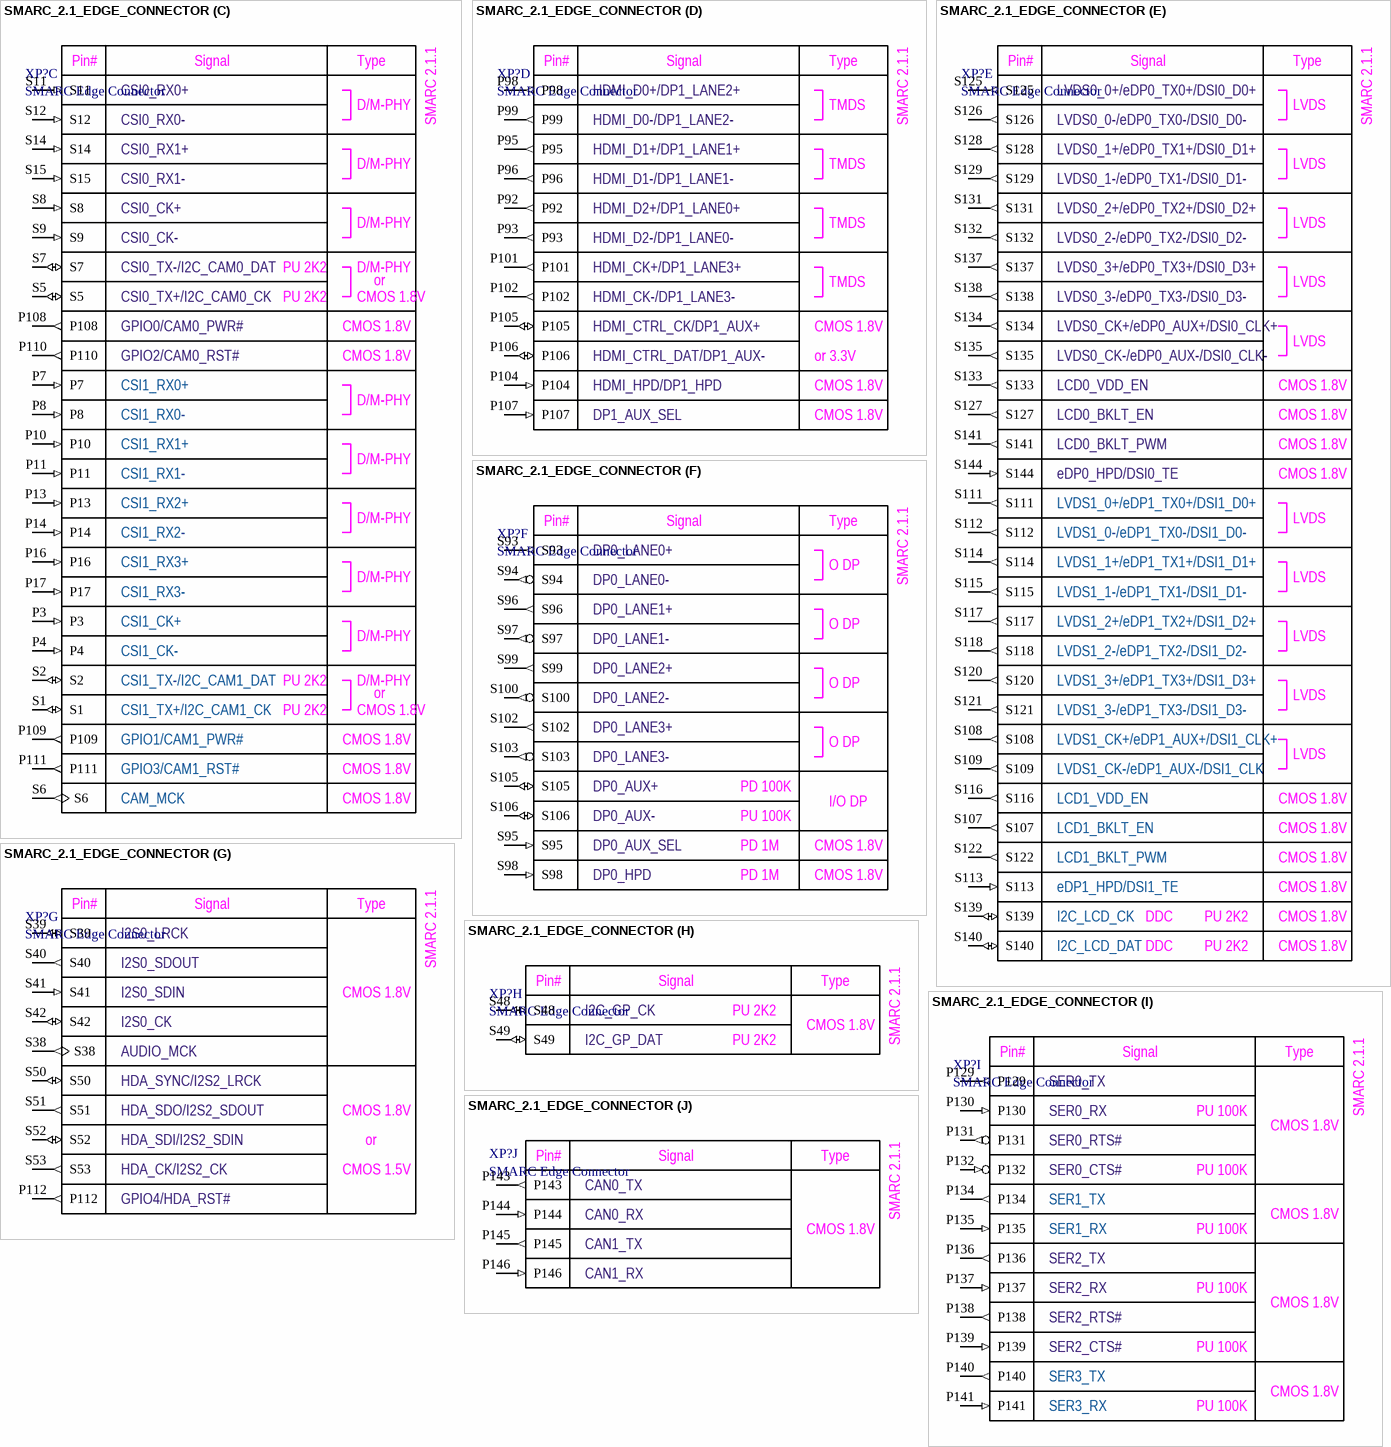
[diagram p6: symbol SMARC_2.1_EDGE_CONNECTOR]

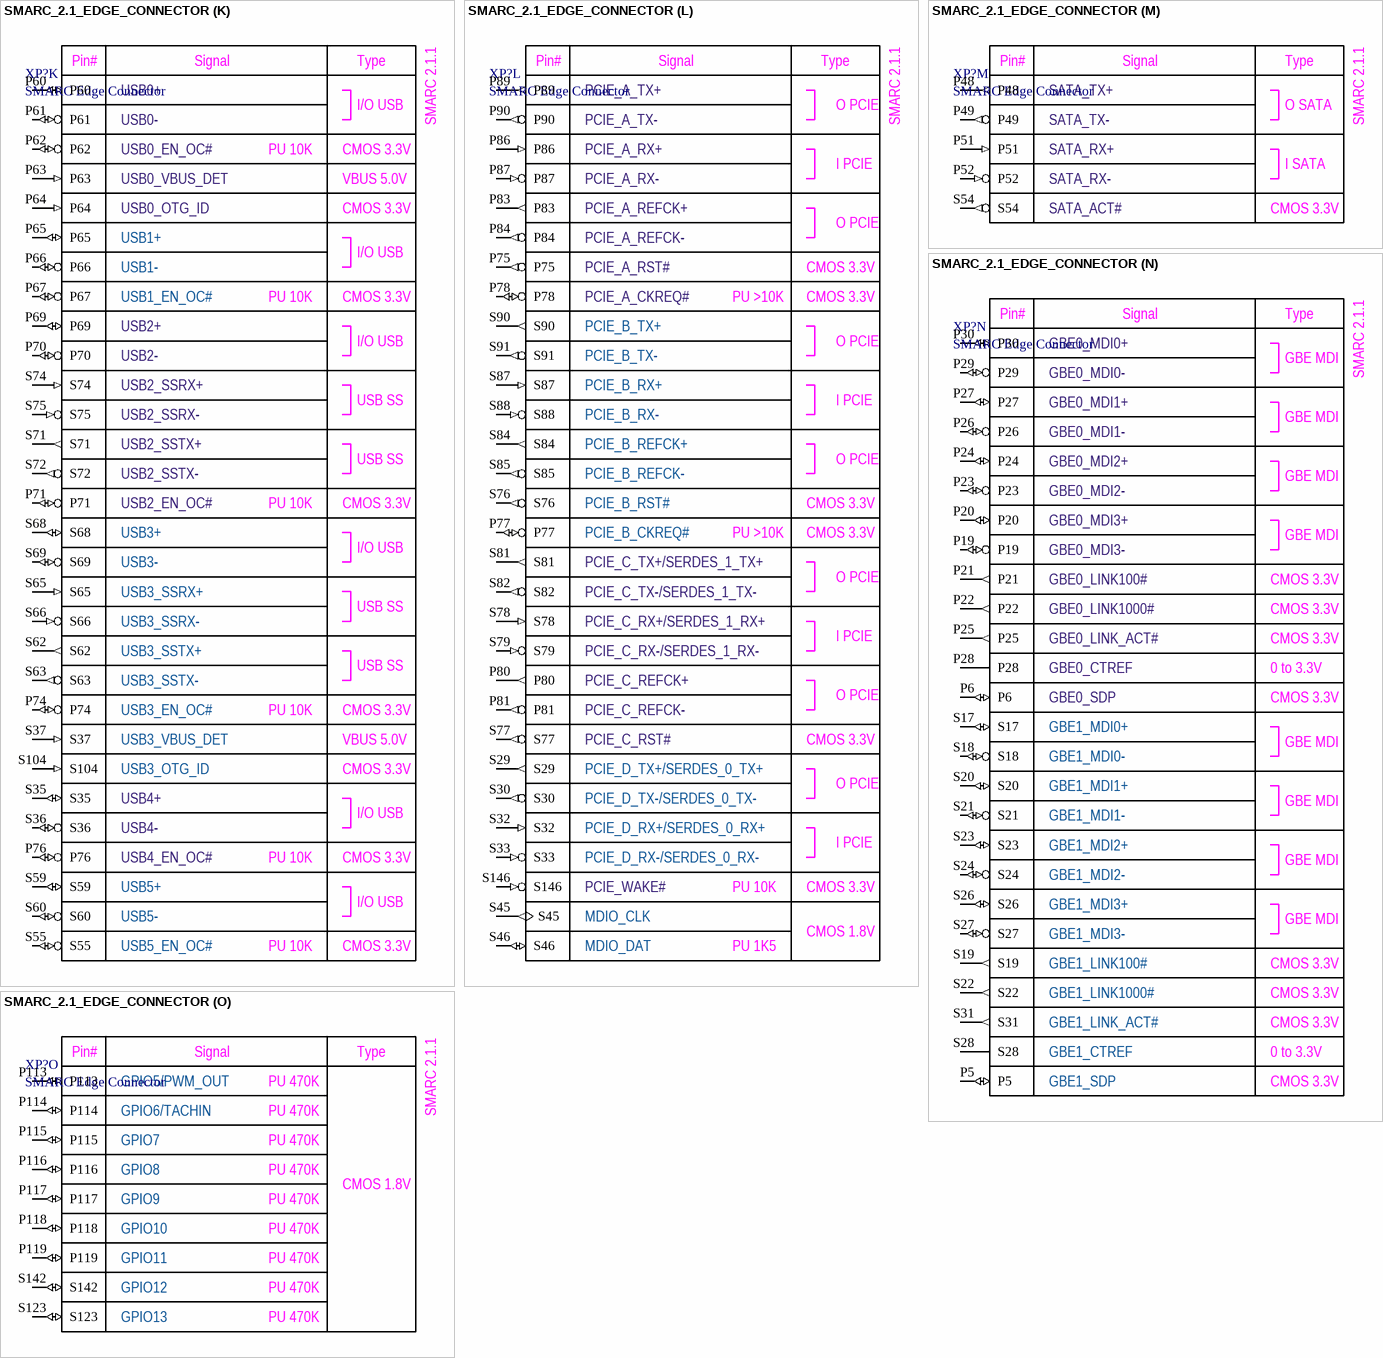
[diagram p7: symbol SMARC_2.1_EDGE_CONNECTOR]

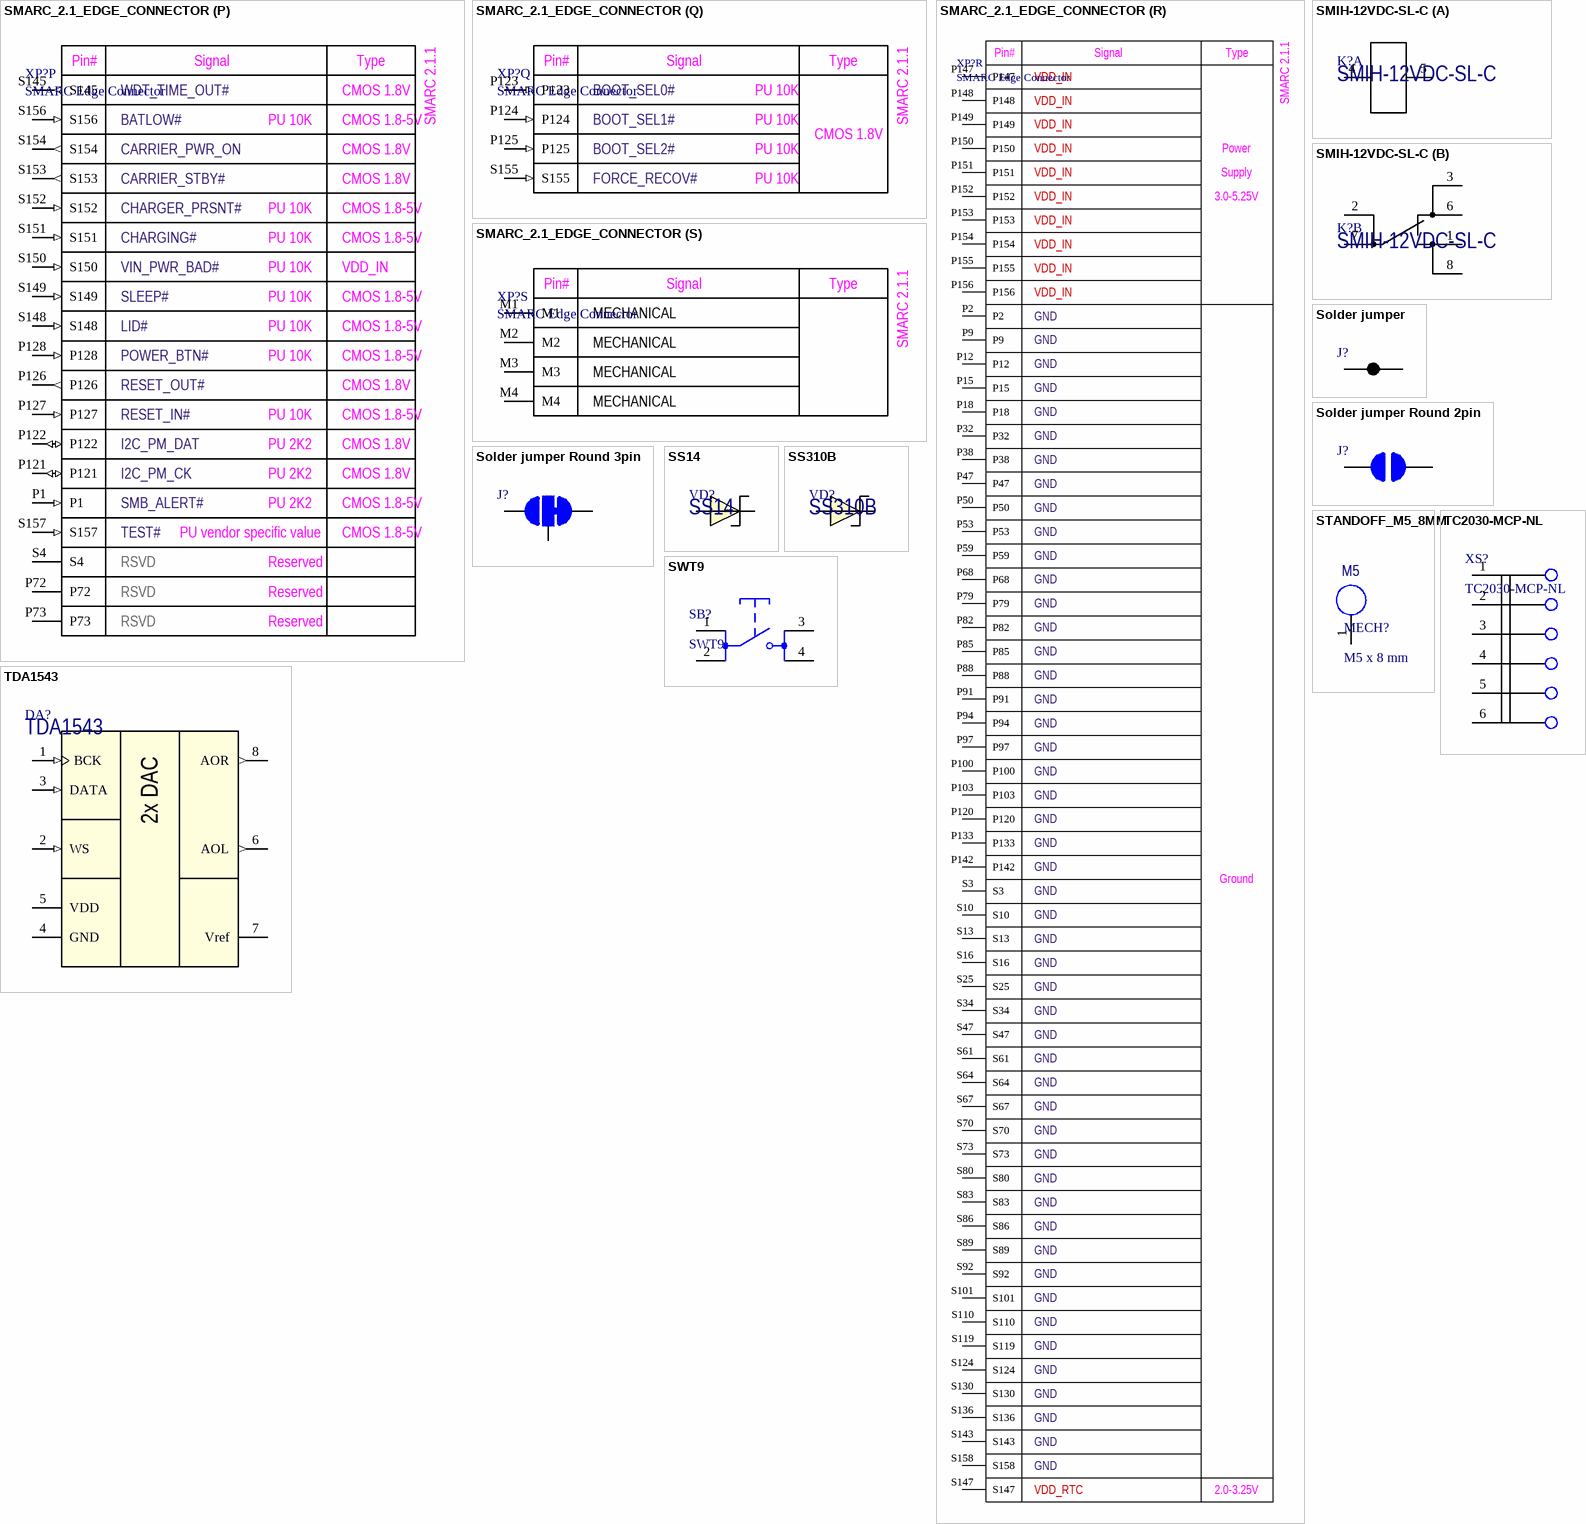
[diagram p8: symbols SMARC_2.1_EDGE_CONNECTOR to TDA1543]

## SMARC_2.1_EDGE_CONNECTOR
designator XP?, comment SMARC Edge Connector  (no BOM)
Part Number: SMARC Edge Connector
footprint SMARC_82x50_EDGE_CONNECTOR
footprint SMARC_82x50_EDGE_CONNECTOR
part A pins: P31 (out), P43 (out), P44 (out), P45 (in), P46 (out), P54 (out), P55 (out), P56 (out), P57 (in), P58 (out), S43 (out), S44 (out), S56 (out), S57 (out), S58 (out)
part B pins: P33 (in), P34 (io), P35 (in), P36 (out), P37 (out), P39 (io), P40 (io), P41 (io), P42 (io)
part C pins: P3 (in), P4 (in), P7 (in), P8 (in), P10 (in), P11 (in), P13 (in), P14 (in), P16 (in), P17 (in), P108 (out), P109 (out), P110 (out), P111 (out), S1 (io), S2 (io), S5 (io), S6 (out), S7 (io), S8 (in), S9 (in), S11 (in), S12 (in), S14 (in), S15 (in)
part D pins: P92 (out), P93 (out), P95 (out), P96 (out), P98 (out), P99 (out), P101 (out), P102 (out), P104 (in), P105 (io), P106 (io), P107 (in)
part E pins: S107 (out), S108 (out), S109 (out), S111 (out), S112 (out), S113 (in), S114 (out), S115 (out), S116 (out), S117 (out), S118 (out), S120 (out), S121 (out), S122 (out), S125 (out), S126 (out), S127 (out), S128 (out), S129 (out), S131 (out), S132 (out), S133 (out), S134 (out), S135 (out), S137 (out), S138 (out), S139 (io), S140 (io), S141 (out), S144 (in)
part F pins: S93 (out), S94 (out), S95 (in), S96 (out), S97 (out), S98 (in), S99 (out), S100 (out), S102 (out), S103 (out), S105 (io), S106 (io)
part G pins: P112 (out), S38 (out), S39 (io), S40 (out), S41 (in), S42 (io), S50 (io), S51 (out), S52 (io), S53 (out)
part H pins: S48 (io), S49 (io)
part I pins: P129 (out), P130 (in), P131 (out), P132 (in), P134 (out), P135 (in), P136 (out), P137 (in), P138 (out), P139 (in), P140 (out), P141 (in)
part J pins: P143 (out), P144 (in), P145 (out), P146 (in)
part K pins: P60 (io), P61 (io), P62 (io), P63 (in), P64 (in), P65 (io), P66 (io), P67 (io), P69 (io), P70 (io), P71 (io), P74 (io), P76 (io), S35 (io), S36 (io), S37 (in), S55 (io), S59 (io), S60 (io), S62 (out), S63 (out), S65 (in), S66 (in), S68 (io), S69 (io), S71 (out), S72 (out), S74 (in), S75 (in), S104 (in)
part L pins: P75 (out), P77 (io), P78 (io), P80 (out), P81 (out), P83 (out), P84 (out), P86 (in), P87 (in), P89 (out), P90 (out), S29 (out), S30 (out), S32 (in), S33 (in), S45 (out), S46 (io), S76 (out), S77 (out), S78 (in), S79 (in), S81 (out), S82 (out), S84 (out), S85 (out), S87 (in), S88 (in), S90 (out), S91 (out), S146 (in)
part M pins: P48 (out), P49 (out), P51 (in), P52 (in), S54 (out)
part N pins: P5 (io), P6 (io), P19 (io), P20 (io), P21 (out), P22 (out), P23 (io), P24 (io), P25 (out), P26 (io), P27 (io), P28, P29 (io), P30 (io), S17 (io), S18 (io), S19 (out), S20 (io), S21 (io), S22 (out), S23 (io), S24 (io), S26 (io), S27 (io), S28, S31 (out)
part O pins: P113 (io), P114 (io), P115 (io), P116 (io), P117 (io), P118 (io), P119 (io), S123 (io), S142 (io)
part P pins: P1 (in), P72 (hiz), P73 (hiz), P121 (io), P122 (io), P126 (out), P127 (in), P128 (in), S4 (hiz), S145 (out), S148 (in), S149 (in), S150 (in), S151 (in), S152 (in), S153 (out), S154 (out), S156 (in), S157 (in)
part Q pins: P123 (in), P124 (in), P125 (in), S155 (in)
part R pins: P2 (power), P9 (power), P12 (power), P15 (power), P18 (power), P32 (power), P38 (power), P47 (power), P50 (power), P53 (power), P59 (power), P68 (power), P79 (power), P82 (power), P85 (power), P88 (power), P91 (power), P94 (power), P97 (power), P100 (power), P103 (power), P120 (power), P133 (power), P142 (power), P147 (power), P148 (power), P149 (power), P150 (power), P151 (power), P152 (power), P153 (power), P154 (power), P155 (power), P156 (power), S3 (power), S10 (power), S13 (power), S16 (power), S25 (power), S34 (power), S47 (power), S61 (power), S64 (power), S67 (power), S70 (power), S73 (power), S80 (power), S83 (power), S86 (power), S89 (power), S92 (power), S101 (power), S110 (power), S119 (power), S124 (power), S130 (power), S136 (power), S143 (power), S147 (power), S158 (power)
part S pins: M1 (power), M2 (power), M3 (power), M4 (power)
part A text: SMARC 2.1.1; Pin#; Signal; Type; SPI0_CS0#; SPI0_CS1#; SPI0_CK; SPI0_DIN; SPI0_DO; ESPI_CS0#/SPI1_CS0#/QSPI_CS0#; ESPI_CS1#/SPI1_CS1#/QSPI_CS1#; CMOS 1.8V; ESPI_CK/SPI1_CK/QSPI_CK; ESPI_IO_1/SPI1_DIN/QSPI_IO_1; ESPI_IO_0/SPI1_DO/QSPI_IO_0; ESPI_IO_2/QSPI_IO_2; ESPI_IO_3/QSPI_IO_3; ESPI_ALERT0#; PU 4K7; ESPI_ALERT1#; ESPI_RESET#
part B text: SMARC 2.1.1; Pin#; Signal; Type; SDIO_D0; SDIO_D1; SDIO_D2; CMOS 1.8V; SDIO_D3; or; SDIO_WP; PU 10K; CMOS 3.3V; SDIO_CMD; SDIO_CD#; SDIO_CK; SDIO_PWR_EN
part C text: SMARC 2.1.1; Pin#; Signal; Type; CSI0_RX0+; D/M-PHY; CSI0_RX0-; CSI0_RX1+; CSI0_RX1-; CSI0_CK+; CSI0_CK-; CSI0_TX-/I2C_CAM0_DAT; PU 2K2; or; CSI0_TX+/I2C_CAM0_CK; CMOS 1.8V; GPIO0/CAM0_PWR#; GPIO2/CAM0_RST#; CSI1_RX0+; CSI1_RX0-; CSI1_RX1+; CSI1_RX1-; CSI1_RX2+; CSI1_RX2-; CSI1_RX3+; CSI1_RX3-; CSI1_CK+; CSI1_CK-; CSI1_TX-/I2C_CAM1_DAT; CSI1_TX+/I2C_CAM1_CK; GPIO1/CAM1_PWR#; GPIO3/CAM1_RST#; CAM_MCK
part D text: SMARC 2.1.1; Pin#; Signal; Type; HDMI_D0+/DP1_LANE2+; TMDS; HDMI_D0-/DP1_LANE2-; HDMI_D1+/DP1_LANE1+; HDMI_D1-/DP1_LANE1-; HDMI_D2+/DP1_LANE0+; HDMI_D2-/DP1_LANE0-; HDMI_CK+/DP1_LANE3+; HDMI_CK-/DP1_LANE3-; HDMI_CTRL_CK/DP1_AUX+; CMOS 1.8V; HDMI_CTRL_DAT/DP1_AUX-; or 3.3V; HDMI_HPD/DP1_HPD; DP1_AUX_SEL
part E text: SMARC 2.1.1; Pin#; Signal; Type; LVDS0_0+/eDP0_TX0+/DSI0_D0+; LVDS; LVDS0_0-/eDP0_TX0-/DSI0_D0-; LVDS0_1+/eDP0_TX1+/DSI0_D1+; LVDS0_1-/eDP0_TX1-/DSI0_D1-; LVDS0_2+/eDP0_TX2+/DSI0_D2+; LVDS0_2-/eDP0_TX2-/DSI0_D2-; LVDS0_3+/eDP0_TX3+/DSI0_D3+; LVDS0_3-/eDP0_TX3-/DSI0_D3-; LVDS0_CK+/eDP0_AUX+/DSI0_CLK+; LVDS0_CK-/eDP0_AUX-/DSI0_CLK-; LCD0_VDD_EN; CMOS 1.8V; LCD0_BKLT_EN; LCD0_BKLT_PWM; eDP0_HPD/DSI0_TE; LVDS1_0+/eDP1_TX0+/DSI1_D0+; LVDS1_0-/eDP1_TX0-/DSI1_D0-; LVDS1_1+/eDP1_TX1+/DSI1_D1+; LVDS1_1-/eDP1_TX1-/DSI1_D1-; LVDS1_2+/eDP1_TX2+/DSI1_D2+; LVDS1_2-/eDP1_TX2-/DSI1_D2-; LVDS1_3+/eDP1_TX3+/DSI1_D3+; LVDS1_3-/eDP1_TX3-/DSI1_D3-; LVDS1_CK+/eDP1_AUX+/DSI1_CLK+; LVDS1_CK-/eDP1_AUX-/DSI1_CLK; LCD1_VDD_EN; LCD1_BKLT_EN; LCD1_BKLT_PWM; eDP1_HPD/DSI1_TE; I2C_LCD_CK; DDC; PU 2K2; I2C_LCD_DAT
part F text: SMARC 2.1.1; Pin#; Signal; Type; DP0_LANE0+; O DP; DP0_LANE0-; DP0_LANE1+; DP0_LANE1-; DP0_LANE2+; DP0_LANE2-; DP0_LANE3+; DP0_LANE3-; DP0_AUX+; PD 100K; I/O DP; DP0_AUX-; PU 100K; DP0_AUX_SEL; PD 1M; CMOS 1.8V; DP0_HPD
part G text: SMARC 2.1.1; Pin#; Signal; Type; I2S0_LRCK; I2S0_SDOUT; I2S0_SDIN; CMOS 1.8V; I2S0_CK; AUDIO_MCK; HDA_SYNC/I2S2_LRCK; HDA_SDO/I2S2_SDOUT; HDA_SDI/I2S2_SDIN; or; HDA_CK/I2S2_CK; CMOS 1.5V; GPIO4/HDA_RST#
part H text: SMARC 2.1.1; Pin#; Signal; Type; I2C_GP_CK; PU 2K2; CMOS 1.8V; I2C_GP_DAT
part I text: SMARC 2.1.1; Pin#; Signal; Type; SER0_TX; SER0_RX; PU 100K; CMOS 1.8V; SER0_RTS#; SER0_CTS#; SER1_TX; SER1_RX; SER2_TX; SER2_RX; SER2_RTS#; SER2_CTS#; SER3_TX; SER3_RX
part J text: SMARC 2.1.1; Pin#; Signal; Type; CAN0_TX; CAN0_RX; CMOS 1.8V; CAN1_TX; CAN1_RX
part K text: SMARC 2.1.1; Pin#; Signal; Type; USB0+; I/O USB; USB0-; USB0_EN_OC#; PU 10K; CMOS 3.3V; USB0_VBUS_DET; VBUS 5.0V; USB0_OTG_ID; USB1+; USB1-; USB1_EN_OC#; USB2+; USB2-; USB2_SSRX+; USB SS; USB2_SSRX-; USB2_SSTX+; USB2_SSTX-; USB2_EN_OC#; USB3+; USB3-; USB3_SSRX+; USB3_SSRX-; USB3_SSTX+; USB3_SSTX-; USB3_EN_OC#; USB3_VBUS_DET; USB3_OTG_ID; USB4+; USB4-; USB4_EN_OC#; USB5+; USB5-; USB5_EN_OC#
part L text: SMARC 2.1.1; Pin#; Signal; Type; PCIE_A_TX+; O PCIE; PCIE_A_TX-; PCIE_A_RX+; I PCIE; PCIE_A_RX-; PCIE_A_REFCK+; PCIE_A_REFCK-; PCIE_A_RST#; CMOS 3.3V; PCIE_A_CKREQ#; PU >10K; PCIE_B_TX+; PCIE_B_TX-; PCIE_B_RX+; PCIE_B_RX-; PCIE_B_REFCK+; PCIE_B_REFCK-; PCIE_B_RST#; PCIE_B_CKREQ#; PCIE_C_TX+/SERDES_1_TX+; PCIE_C_TX-/SERDES_1_TX-; PCIE_C_RX+/SERDES_1_RX+; PCIE_C_RX-/SERDES_1_RX-; PCIE_C_REFCK+; PCIE_C_REFCK-; PCIE_C_RST#; PCIE_D_TX+/SERDES_0_TX+; PCIE_D_TX-/SERDES_0_TX-; PCIE_D_RX+/SERDES_0_RX+; PCIE_D_RX-/SERDES_0_RX-; PCIE_WAKE#; PU 10K; MDIO_CLK; CMOS 1.8V; MDIO_DAT; PU 1K5
part M text: SMARC 2.1.1; Pin#; Signal; Type; SATA_TX+; O SATA; SATA_TX-; SATA_RX+; I SATA; SATA_RX-; SATA_ACT#; CMOS 3.3V
part N text: SMARC 2.1.1; Pin#; Signal; Type; GBE0_MDI0+; GBE MDI; GBE0_MDI0-; GBE0_MDI1+; GBE0_MDI1-; GBE0_MDI2+; GBE0_MDI2-; GBE0_MDI3+; GBE0_MDI3-; GBE0_LINK100#; CMOS 3.3V; GBE0_LINK1000#; GBE0_LINK_ACT#; GBE0_CTREF; 0 to 3.3V; GBE0_SDP; GBE1_MDI0+; GBE1_MDI0-; GBE1_MDI1+; GBE1_MDI1-; GBE1_MDI2+; GBE1_MDI2-; GBE1_MDI3+; GBE1_MDI3-; GBE1_LINK100#; GBE1_LINK1000#; GBE1_LINK_ACT#; GBE1_CTREF; GBE1_SDP
part O text: SMARC 2.1.1; Pin#; Signal; Type; GPIO5/PWM_OUT; PU 470K; GPIO6/TACHIN; GPIO7; GPIO8; CMOS 1.8V; GPIO9; GPIO10; GPIO11; GPIO12; GPIO13
part P text: SMARC 2.1.1; Pin#; Signal; Type; WDT_TIME_OUT#; CMOS 1.8V; BATLOW#; PU 10K; CMOS 1.8-5V; CARRIER_PWR_ON; CARRIER_STBY#; CHARGER_PRSNT#; CHARGING#; VIN_PWR_BAD#; VDD_IN; SLEEP#; LID#; POWER_BTN#; RESET_OUT#; RESET_IN#; I2C_PM_DAT; PU 2K2; I2C_PM_CK; SMB_ALERT#; TEST#; PU vendor specific value; RSVD; Reserved
part Q text: SMARC 2.1.1; Pin#; Signal; Type; BOOT_SEL0#; PU 10K; BOOT_SEL1#; CMOS 1.8V; BOOT_SEL2#; FORCE_RECOV#
part R text: SMARC 2.1.1; Pin#; Signal; Type; VDD_IN; Power; Supply; 3.0-5.25V; GND; Ground; VDD_RTC; 2.0-3.25V
part S text: SMARC 2.1.1; Pin#; Signal; Type; MECHANICAL

## SMIH-12VDC-SL-C
designator K?
Subminature high power relay 16A; Manufacturer: Songle Relay; Coil Current: 12V; Coil Resistance: 270 Ohm; Package: 29mm x 12.7mm; Part Number: SMIH-12VDC-SL-C
footprint RELAY_13x29.5MM
part A pins: 4, 5
part B pins: 1, 2, 3, 6, 7, 8

## Solder jumper
designator J?  (value not drawn)  (net tie, no BOM)
Value: PLS2
footprint JUMP_0.2
footprint JUMP_0.3
pins: 1, 2

## Solder jumper Round 2pin
designator J?  (value not drawn)  (net tie, no BOM)
footprint JUMP_0.2
footprint JUMP_0.3
footprint JUMP_ROUND_0.5
footprint JUMP_0.5
footprint JUMPER_3x3mm
footprint JUMPER_1.5x1.5mm
pins: 1, 2

## Solder jumper Round 3pin
designator J?  (value not drawn)  (net tie, no BOM)
Value: PLS2
footprint JUMP_0.2
footprint JUMP_0.3
pins: 1, 2, 3

## SS14
designator VD?
Diode Schottky 40V, 1A; Manufacturer: DC Components; Package: SMA(DO-214AC); Part Number: SS14
footprint SMA (Molded Diode, 2-Leads, Body 4.3x2.6mm, IPC Medium Density, based on OnSemi component dimensions and land pattern)
pins: 1 C, 2 A

## SS310B
designator VD?
Diode Schottky 100V, 3A; Manufacturer: UMW; Package: SMB(DO-214AA); Part Number: SS310B
footprint SMB (DO-214AA)
pins: 1 C, 2 A

## STANDOFF_M5_8MM
designator MECH?, comment M5 x 8 mm  Thread: M5
Standoffs M5 Thread x 0.8, H = 8 mm; Part Number: M5 x 8 mm
footprint STANDOFF_M5_8MM
pins: 1

## SWT9
designator SB?
Tact Button (with tact cap SWT9S); Part Number: SWT9
footprint SWT9 (with SWT-9S)
pins: 1, 2, 3, 4

## TC2030-MCP-NL
designator XS?  (no BOM)
Tag connect TC2030-MCP-NL; Value: TC2030-MCP-NL
footprint TC2030-MCP-NL
pins: 1, 2, 3, 4, 5, 6

## TDA1543
designator DA?
Dual 16-bit DAC, I2S input format; Manufacturer: Philips; Package: DIP-8; Part Number: TDA1543
footprint DIP-8P-M01 (Plastic DIP, 8 pin, lead pitch 2.54mm (0.1"), row spacing 7.62mm (0.3").)
pins: 1 BCK (in), 2 WS (in), 3 DATA (in), 4 GND (power), 5 VDD (power), 6 AOL (out), 7 Vref, 8 AOR (out)
text: 2x DAC

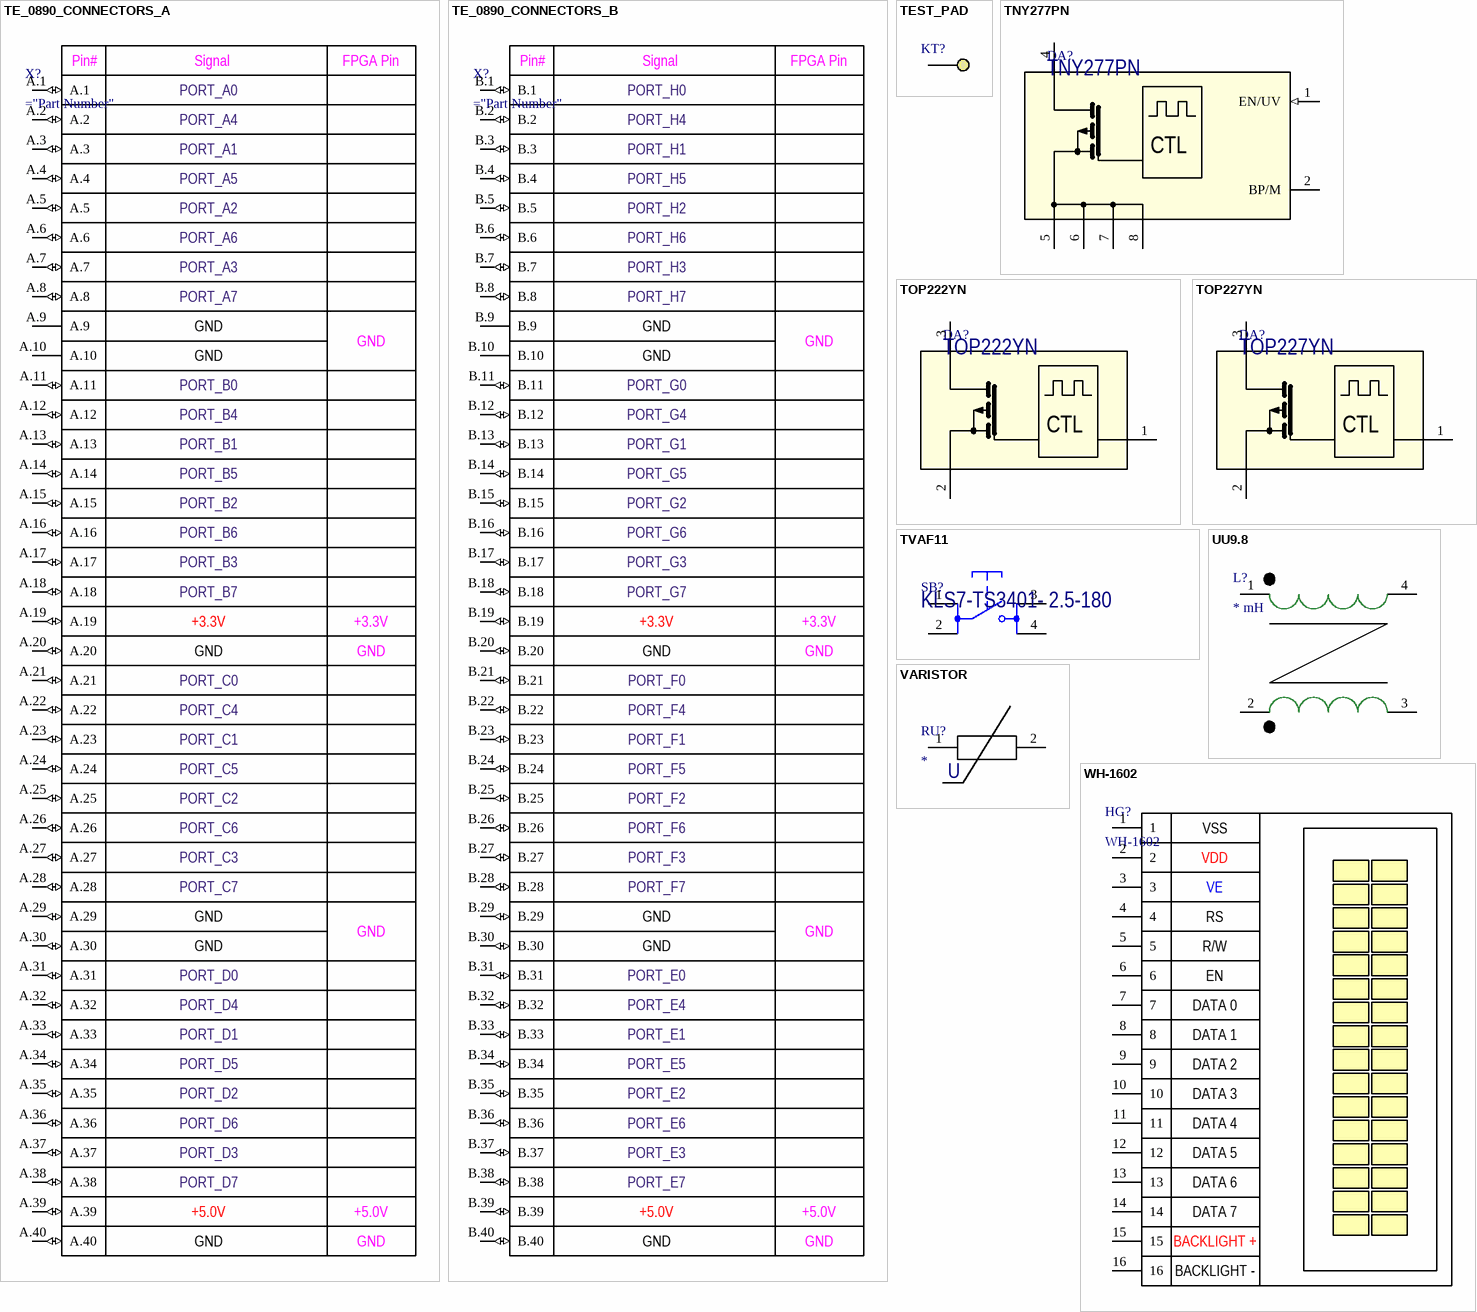
[diagram p9: symbols TE_0890_CONNECTORS_A to WH-1602]

## TE_0890_CONNECTORS_A
designator X?  (no BOM)
footprint TE0890_PCB_CONNECTOR_A
pins: A.1 (io), A.2 (io), A.3 (io), A.4 (io), A.5 (io), A.6 (io), A.7 (io), A.8 (io), A.9 (power), A.10 (power), A.11 (io), A.12 (io), A.13 (io), A.14 (io), A.15 (io), A.16 (io), A.17 (io), A.18 (io), A.19 (io), A.20 (io), A.21 (io), A.22 (io), A.23 (io), A.24 (io), A.25 (io), A.26 (io), A.27 (io), A.28 (io), A.29 (io), A.30 (io), A.31 (io), A.32 (io), A.33 (io), A.34 (io), A.35 (io), A.36 (io), A.37 (io), A.38 (io), A.39 (io), A.40 (io)
text: Pin#; Signal; FPGA Pin; PORT_A0; PORT_A4; PORT_A1; PORT_A5; PORT_A2; PORT_A6; PORT_A3; PORT_A7; GND; PORT_B0; PORT_B4; PORT_B1; PORT_B5; PORT_B2; PORT_B6; PORT_B3; PORT_B7; +3.3V; PORT_C0; PORT_C4; PORT_C1; PORT_C5; PORT_C2; PORT_C6; PORT_C3; PORT_C7; PORT_D0; PORT_D4; PORT_D1; PORT_D5; PORT_D2; PORT_D6; PORT_D3; PORT_D7; +5.0V

## TE_0890_CONNECTORS_B
designator X?  (no BOM)
footprint TE0890_PCB_CONNECTOR_B
pins: B.1 (io), B.2 (io), B.3 (io), B.4 (io), B.5 (io), B.6 (io), B.7 (io), B.8 (io), B.9 (power), B.10 (power), B.11 (io), B.12 (io), B.13 (io), B.14 (io), B.15 (io), B.16 (io), B.17 (io), B.18 (io), B.19 (io), B.20 (io), B.21 (io), B.22 (io), B.23 (io), B.24 (io), B.25 (io), B.26 (io), B.27 (io), B.28 (io), B.29 (io), B.30 (io), B.31 (io), B.32 (io), B.33 (io), B.34 (io), B.35 (io), B.36 (io), B.37 (io), B.38 (io), B.39 (io), B.40 (io)
text: Pin#; Signal; FPGA Pin; PORT_H0; PORT_H4; PORT_H1; PORT_H5; PORT_H2; PORT_H6; PORT_H3; PORT_H7; GND; PORT_G0; PORT_G4; PORT_G1; PORT_G5; PORT_G2; PORT_G6; PORT_G3; PORT_G7; +3.3V; PORT_F0; PORT_F4; PORT_F1; PORT_F5; PORT_F2; PORT_F6; PORT_F3; PORT_F7; PORT_E0; PORT_E4; PORT_E1; PORT_E5; PORT_E2; PORT_E6; PORT_E3; PORT_E7; +5.0V

## TEST_PAD
designator KT?  (value not drawn)  (net tie, no BOM)
Test pad
footprint TEST_PAD_1mmx2mm
footprint TEST_PAD_1mmx3mm
footprint TEST_PAD_0.5mmx1.5mm
footprint TEST_PAD_0.5mmx0.5mm
footprint TEST_PAD_0.5mmx0.7mm
footprint TEST_PAD_1mmx1.5mm
footprint TEST_PAD_R0.5mm
footprint TEST_PAD_R1mm
footprint TEST_PAD_3mmx4mm
footprint TEST_PAD_3mmx5mm
footprint TEST_PAD_2mmx2mm
footprint TEST_PAD_HOLE0.5x1.0
footprint PAD_EDGE_ROUND
footprint PAD_EDGE_SQR
footprint PAD_430_EDGE_ROUND
footprint PAD_430_EDGE_SQR
footprint TEST_PAD_HOLE1.1x1.8
footprint TEST_PAD_HOLE1.1x1.8SQ
pins: 1

## TNY277PN
designator DA?
Energy-Efficient, Off-Line Switcher With Enhanced Flexibility and Extended Power Range; Manufacturer: Power Integrations; Package: DIP-8C; Part Number: TNY277PN
footprint DIP-8C (Plastic DIP, 7 pin, lead pitch 2.54mm (0.1"), row spacing 7.62mm (0.3").)
pins: 1 EN/UV (in), 2 BP/M, 4 DRAIN, 5 SOURCE, 6 SOURCE, 7 SOURCE, 8 SOURCE
text: CTL

## TOP222YN
designator DA?
Three-Terminal Off-Line PWM Switch; Manufacturer: Power Integrations; Package: TO-220-3; Part Number: TOP222YN
footprint TO-220B-3
footprint TO-220B-3 (HORIZONTAL)
pins: 1 CONTROL, 2 SOURCE, 3 DRAIN
text: CTL

## TOP227YN
designator DA?
Three-Terminal Off-Line PWM Switch; Manufacturer: Power Integrations; Package: TO-220-3; Part Number: TOP227YN
footprint TO-220B-3
footprint TO-220B-3 (HORIZONTAL)
pins: 1 CONTROL, 2 SOURCE, 3 DRAIN
text: CTL

## TVAF11
designator SB?, comment KLS7-TS3401- 2.5-180
Tact Button SMD 4х3х2.5mm; Manufacturer: KLS; Package: 3x4mm; Part Number: KLS7-TS3401- 2.5-180
footprint TVAF11
pins: 1, 2, 3, 4

## UU9.8
designator L?, comment * mH
UU9.8 Ferrite Core inductor; Core: EE25; Value: * mH
footprint UU9.8 (Core UU9.8)
pins: 1, 2, 3, 4

## VARISTOR
designator RU?
Varistor; Package: *; Part Number: *
footprint VARISTOR_05D (Varistor 05D)
footprint VARISTOR_07D (Varistor 07D)
footprint VARISTOR_10D (Varistor 10D)
footprint VARISTOR_14D (Varistor 14D)
pins: 1, 2
text: U

## WH-1602
designator HG?
1602 Display with 16 pin PBS connector; Part Number: WH-1602
footprint WH1602
pins: 1, 2, 3, 4, 5, 6, 7, 8, 9, 10, 11, 12, 13, 14, 15, 16
text: VSS; VDD; VE; RS; R/W; EN; DATA 0; DATA 1; DATA 2; DATA 3; DATA 4; DATA 5; DATA 6; DATA 7; BACKLIGHT +; BACKLIGHT -

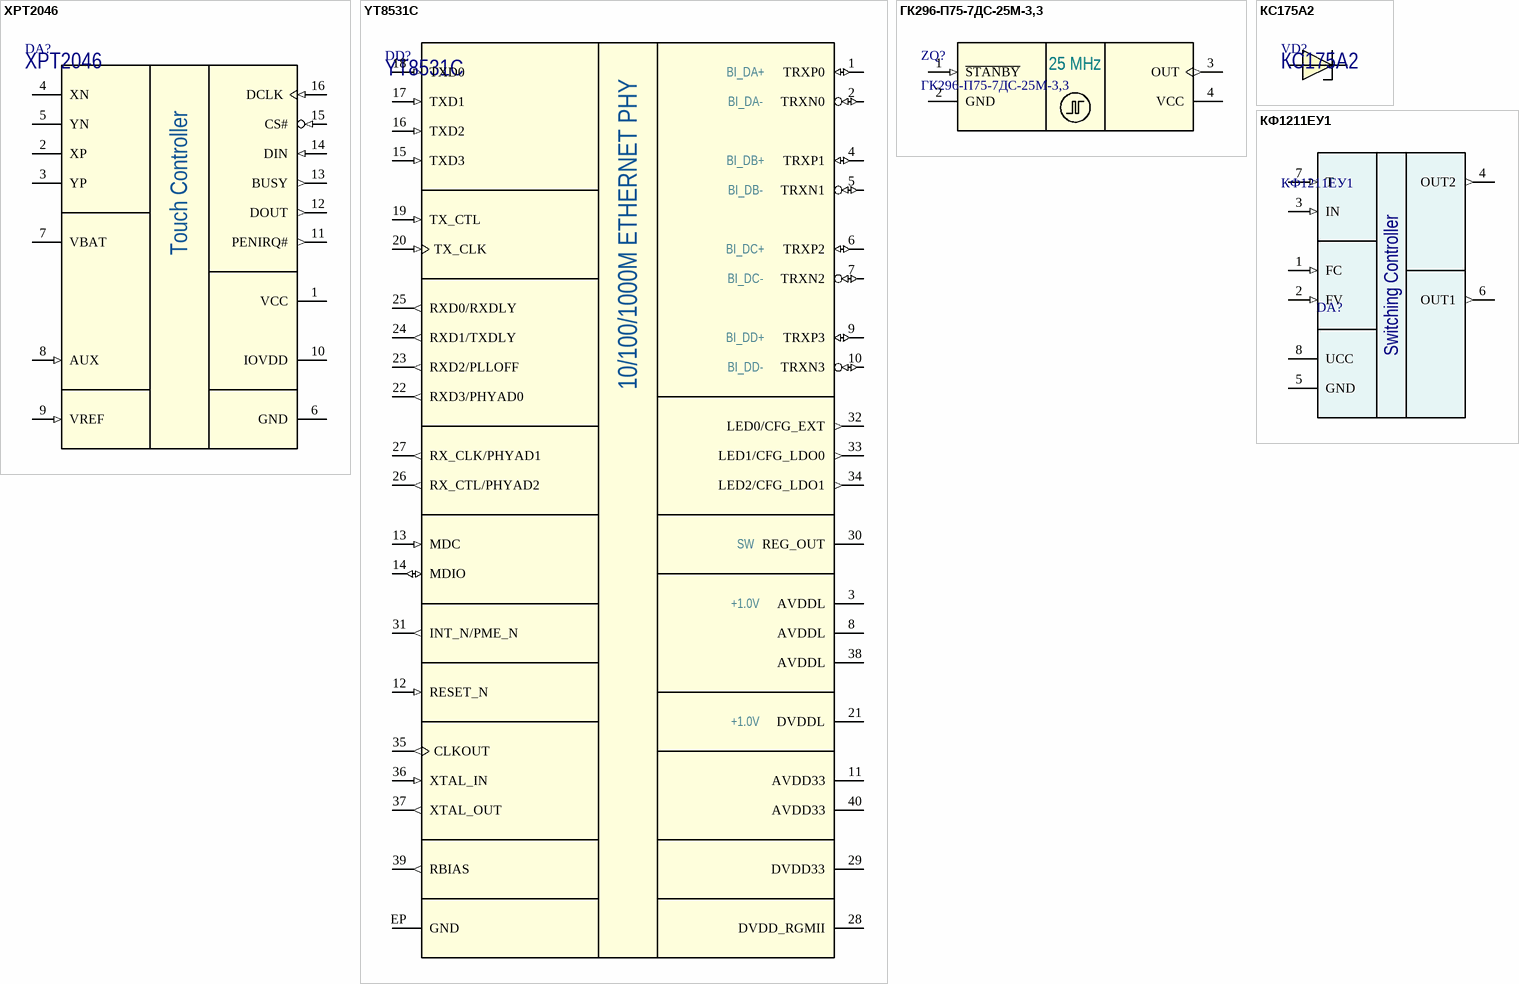
[diagram p10: symbols XPT2046 to КФ1211ЕУ1]

## XPT2046
designator DA?
Touch Screen Controller; Manufacturer: XPTEK Tech; Package: TSSOP-16; Part Number: XPT2046
footprint TSSOP-16 (TSOP, 20-Leads, Body 6.50x4.40mm, Pitch 0.65mm, IPC Medium Density)
pins: 1 VCC (power), 2 XP, 3 YP, 4 XN, 5 YN, 6 GND (power), 7 VBAT (power), 8 AUX (in), 9 VREF (in), 10 IOVDD (power), 11 PENIRQ# (out), 12 DOUT (out), 13 BUSY (out), 14 DIN (in), 15 CS# (in), 16 DCLK (in)
text: Touch Controller

## YT8531C
designator DD?
Integrated 10/100/1000M Ethernet Transceiver; Manufacturer: Motorcomm; Package: QFN-40; Part Number: YT8531C
footprint QFN40_YT8531
pins: 1 TRXP0 (io), 2 TRXN0 (io), 3 AVDDL (power), 4 TRXP1 (io), 5 TRXN1 (io), 6 TRXP2 (io), 7 TRXN2 (io), 8 AVDDL (power), 9 TRXP3 (io), 10 TRXN3 (io), 11 AVDD33 (power), 12 RESET_N (in), 13 MDC (in), 14 MDIO (io), 15 TXD3 (in), 16 TXD2 (in), 17 TXD1 (in), 18 TXD0 (in), 19 TX_CTL (in), 20 TX_CLK (in), 21 DVDDL (power), 22 RXD3/PHYAD0 (out), 23 RXD2/PLLOFF (out), 24 RXD1/TXDLY (out), 25 RXD0/RXDLY (out), 26 RX_CTL/PHYAD2 (out), 27 RX_CLK/PHYAD1 (out), 28 DVDD_RGMII (power), 29 DVDD33 (power), 30 REG_OUT (power), 31 INT_N/PME_N (out), 32 LED0/CFG_EXT (out), 33 LED1/CFG_LDO0 (out), 34 LED2/CFG_LDO1 (out), 35 CLKOUT (out), 36 XTAL_IN (in), 37 XTAL_OUT (out), 38 AVDDL (power), 39 RBIAS (out), 40 AVDD33 (power), EP GND (power)
text: BI_DA+; BI_DA-; BI_DB+; BI_DB-; 10/100/1000M ETHERNET PHY; BI_DC+; BI_DC-; BI_DD+; BI_DD-; SW; +1.0V

## ГК296-П75-7ДС-25М-3,3
designator ZQ?
25 MHz clock oscillator; Manufacturer: АО «Завод «Метеор» г. Волжский Волгоградской обл.; Part Number: ГК296-П75-7ДС-25М-3,3; Package: SMD7050
footprint SMD7050
pins: 1 ~{STANBY} (in), 2 GND (power), 3 OUT (out), 4 VCC (power)
text: 25 MHz

## КС175А2
designator VD?
DIODE ZENER 7.5V; Manufacturer: ООО "Саранский завод точных приборов"; ТУ: ХЫ3.369.001ТУ; Package: КД-2; Part Number: КС175А2
footprint KD2
pins: 1 C, 2 A

## КФ1211ЕУ1
designator DA?
ДВУХТАKТНЫЙ KОНТРОЛЛЕР ЭПРА; Manufacturer: ФИРМА «ДОДЭКА»; Part Number: КФ1211ЕУ1; Package: SO-8; Author: Скляров
footprint SOIC-8 (SOIC-8 package)
pins: 1 FC (in), 2 FV (in), 3 IN (in), 4 OUT2 (out), 5 GND (power), 6 OUT1 (out), 7 T (in), 8 UCC (power)
text: Switching Controller

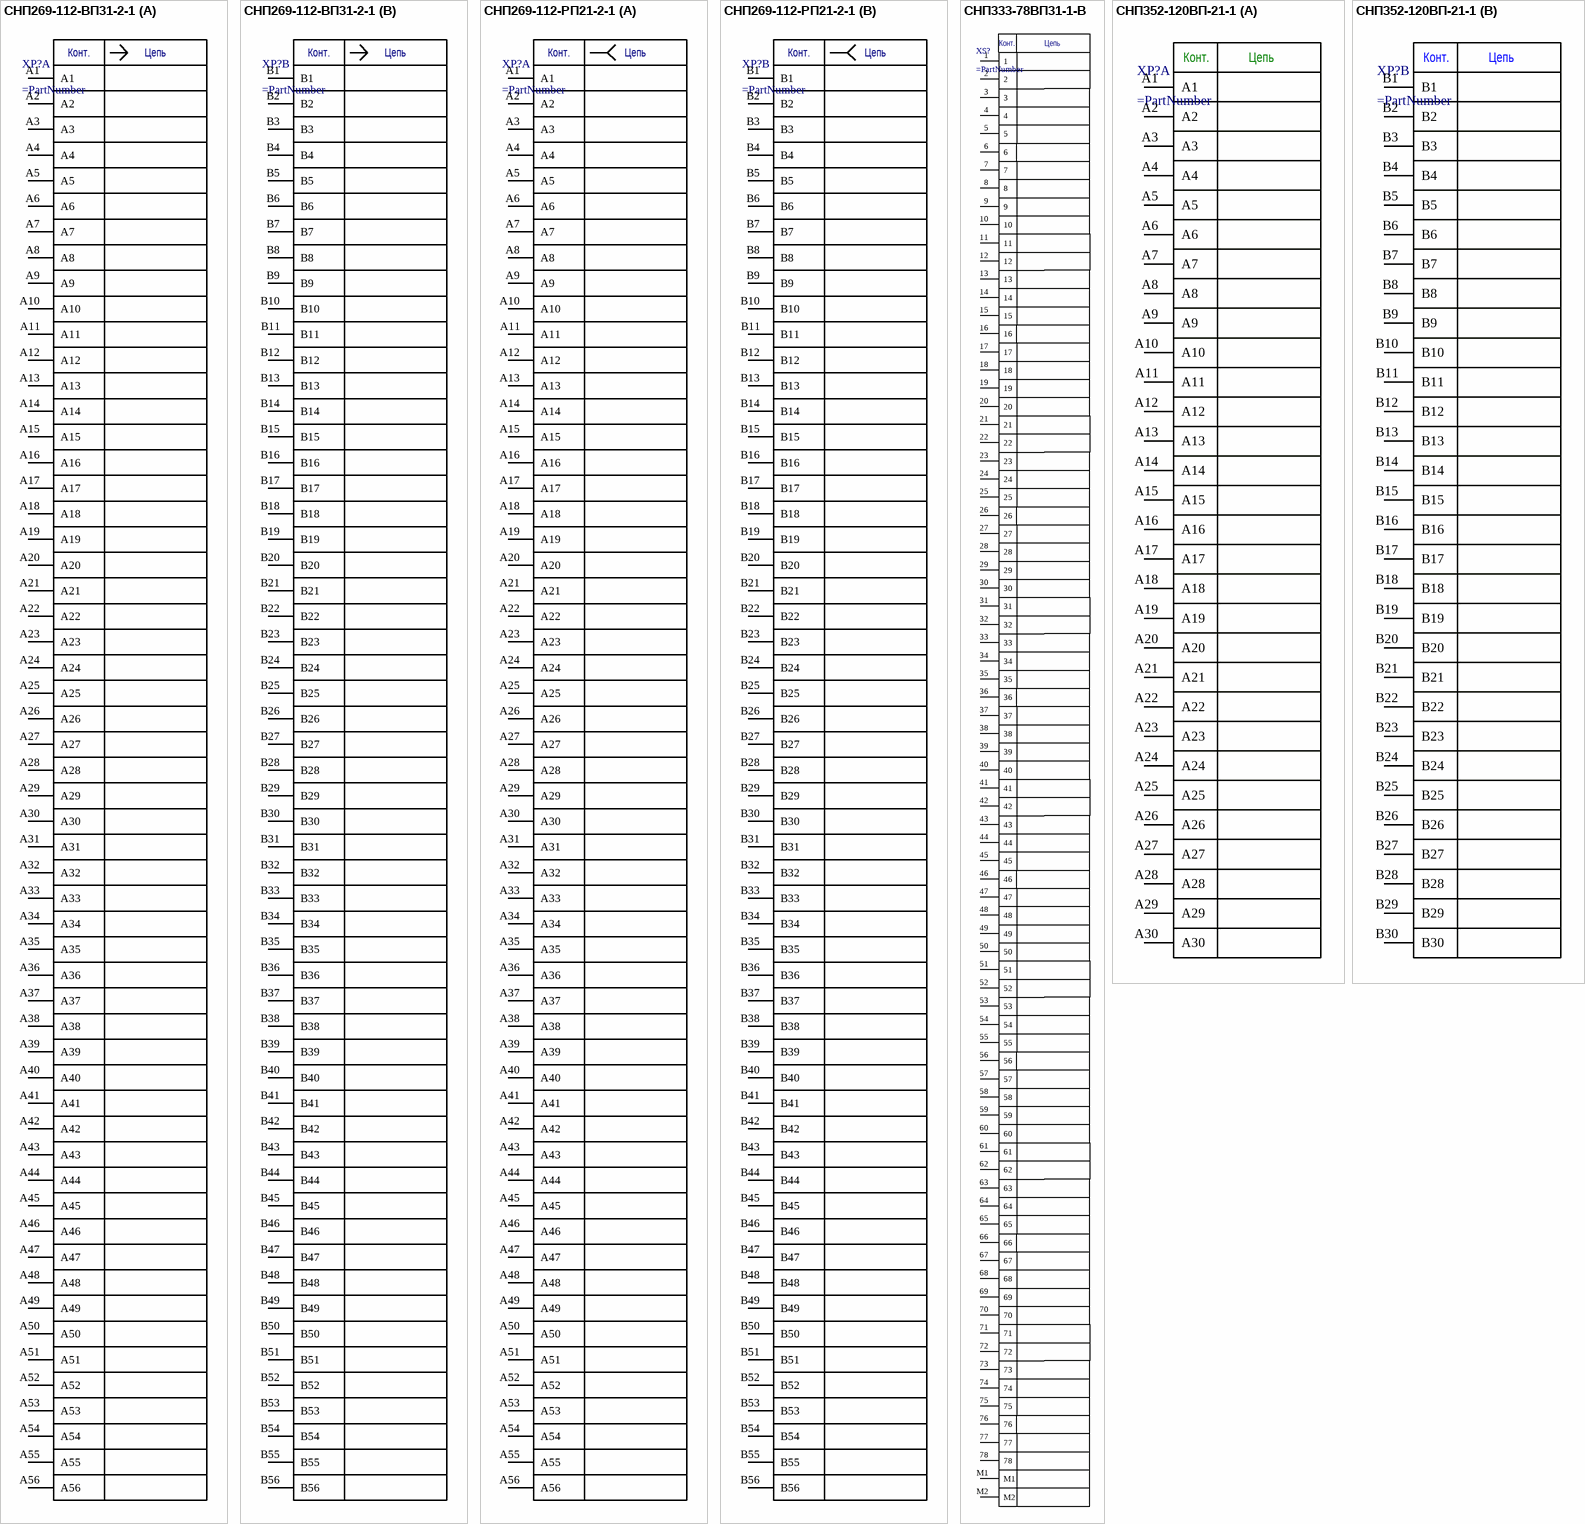
[diagram p11: symbols СНП269-112-ВП31-2-1 to СНП352-120ВП-21-1]

## СНП269-112-ВП31-2-1
designator XP?
Connector 112 pin; Part Number: СНП269-112-ВП31-2-1; ТУ: РЮМК.430420.006 ТУ
footprint SNP269-112-VP31-2-1
part A pins: A1, A2, A3, A4, A5, A6, A7, A8, A9, A10, A11, A12, A13, A14, A15, A16, A17, A18, A19, A20, A21, A22, A23, A24, A25, A26, A27, A28, A29, A30, A31, A32, A33, A34, A35, A36, A37, A38, A39, A40, A41, A42, A43, A44, A45, A46, A47, A48, A49, A50, A51, A52, A53, A54, A55, A56
part B pins: B1, B2, B3, B4, B5, B6, B7, B8, B9, B10, B11, B12, B13, B14, B15, B16, B17, B18, B19, B20, B21, B22, B23, B24, B25, B26, B27, B28, B29, B30, B31, B32, B33, B34, B35, B36, B37, B38, B39, B40, B41, B42, B43, B44, B45, B46, B47, B48, B49, B50, B51, B52, B53, B54, B55, B56
part A text: Конт.; Цепь
part B text: Конт.; Цепь

## СНП269-112-РП21-2-1
designator XP?
Connector 112 pin; Part Number: СНП269-112-РП21-2-1; ТУ: РЮМК.430420.006 ТУ
footprint SNP269-112-RP21-2-1
part A pins: A1, A2, A3, A4, A5, A6, A7, A8, A9, A10, A11, A12, A13, A14, A15, A16, A17, A18, A19, A20, A21, A22, A23, A24, A25, A26, A27, A28, A29, A30, A31, A32, A33, A34, A35, A36, A37, A38, A39, A40, A41, A42, A43, A44, A45, A46, A47, A48, A49, A50, A51, A52, A53, A54, A55, A56
part B pins: B1, B2, B3, B4, B5, B6, B7, B8, B9, B10, B11, B12, B13, B14, B15, B16, B17, B18, B19, B20, B21, B22, B23, B24, B25, B26, B27, B28, B29, B30, B31, B32, B33, B34, B35, B36, B37, B38, B39, B40, B41, B42, B43, B44, B45, B46, B47, B48, B49, B50, B51, B52, B53, B54, B55, B56
part A text: Конт.; Цепь
part B text: Конт.; Цепь

## СНП333-78ВП31-1-В
designator XS?
Part Number: СНП333-78ВП31-1-В
footprint SNP333-78VP31-1-V
pins: 1, 2, 3, 4, 5, 6, 7, 8, 9, 10, 11, 12, 13, 14, 15, 16, 17, 18, 19, 20, 21, 22, 23, 24, 25, 26, 27, 28, 29, 30, 31, 32, 33, 34, 35, 36, 37, 38, 39, 40, 41, 42, 43, 44, 45, 46, 47, 48, 49, 50, 51, 52, 53, 54, 55, 56, 57, 58, 59, 60, 61, 62, 63, 64, 65, 66, 67, 68, 69, 70, 71, 72, 73, 74, 75, 76, 77, 78, M1, M2
text: Конт.; Цепь

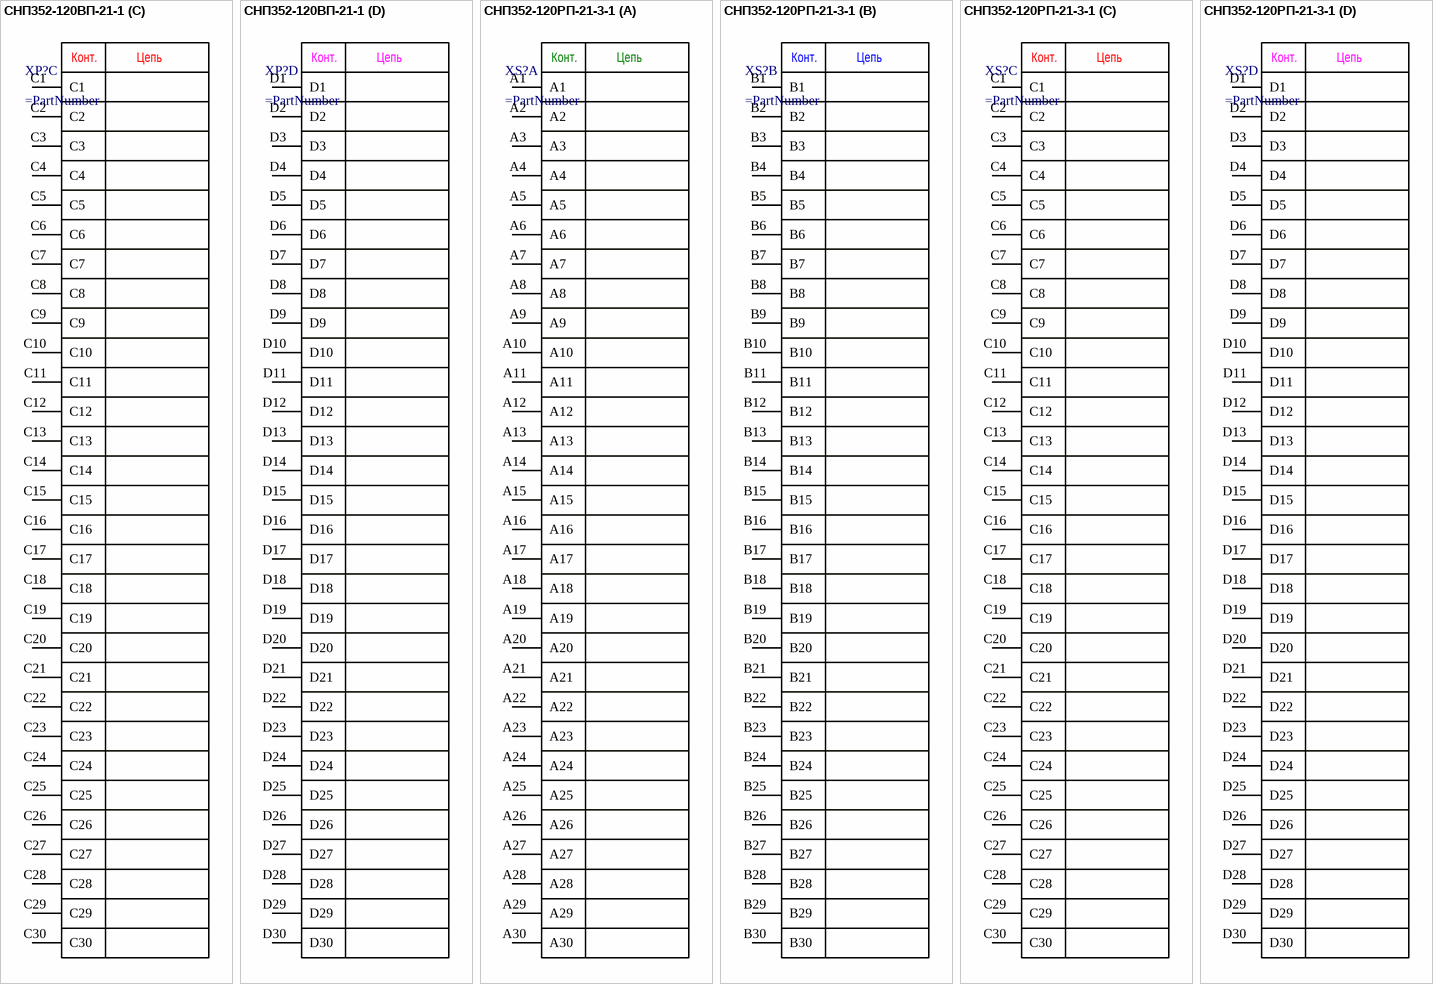
[diagram p12: symbols СНП352-120ВП-21-1 to СНП352-120РП-21-3-1]

## СНП352-120ВП-21-1
designator XP?
Part Number: СНП352-120ВП-21-1
footprint SNP352-120VP-21-1
part A pins: A1, A2, A3, A4, A5, A6, A7, A8, A9, A10, A11, A12, A13, A14, A15, A16, A17, A18, A19, A20, A21, A22, A23, A24, A25, A26, A27, A28, A29, A30
part B pins: B1, B2, B3, B4, B5, B6, B7, B8, B9, B10, B11, B12, B13, B14, B15, B16, B17, B18, B19, B20, B21, B22, B23, B24, B25, B26, B27, B28, B29, B30
part C pins: C1, C2, C3, C4, C5, C6, C7, C8, C9, C10, C11, C12, C13, C14, C15, C16, C17, C18, C19, C20, C21, C22, C23, C24, C25, C26, C27, C28, C29, C30
part D pins: D1, D2, D3, D4, D5, D6, D7, D8, D9, D10, D11, D12, D13, D14, D15, D16, D17, D18, D19, D20, D21, D22, D23, D24, D25, D26, D27, D28, D29, D30
part A text: Конт.; Цепь
part B text: Конт.; Цепь
part C text: Конт.; Цепь
part D text: Конт.; Цепь

## СНП352-120РП-21-3-1
designator XS?
Part Number: СНП352-120РП-21-3-1
footprint SNP352-120RP-21-3-1
part A pins: A1, A2, A3, A4, A5, A6, A7, A8, A9, A10, A11, A12, A13, A14, A15, A16, A17, A18, A19, A20, A21, A22, A23, A24, A25, A26, A27, A28, A29, A30
part B pins: B1, B2, B3, B4, B5, B6, B7, B8, B9, B10, B11, B12, B13, B14, B15, B16, B17, B18, B19, B20, B21, B22, B23, B24, B25, B26, B27, B28, B29, B30
part C pins: C1, C2, C3, C4, C5, C6, C7, C8, C9, C10, C11, C12, C13, C14, C15, C16, C17, C18, C19, C20, C21, C22, C23, C24, C25, C26, C27, C28, C29, C30
part D pins: D1, D2, D3, D4, D5, D6, D7, D8, D9, D10, D11, D12, D13, D14, D15, D16, D17, D18, D19, D20, D21, D22, D23, D24, D25, D26, D27, D28, D29, D30
part A text: Конт.; Цепь
part B text: Конт.; Цепь
part C text: Конт.; Цепь
part D text: Конт.; Цепь

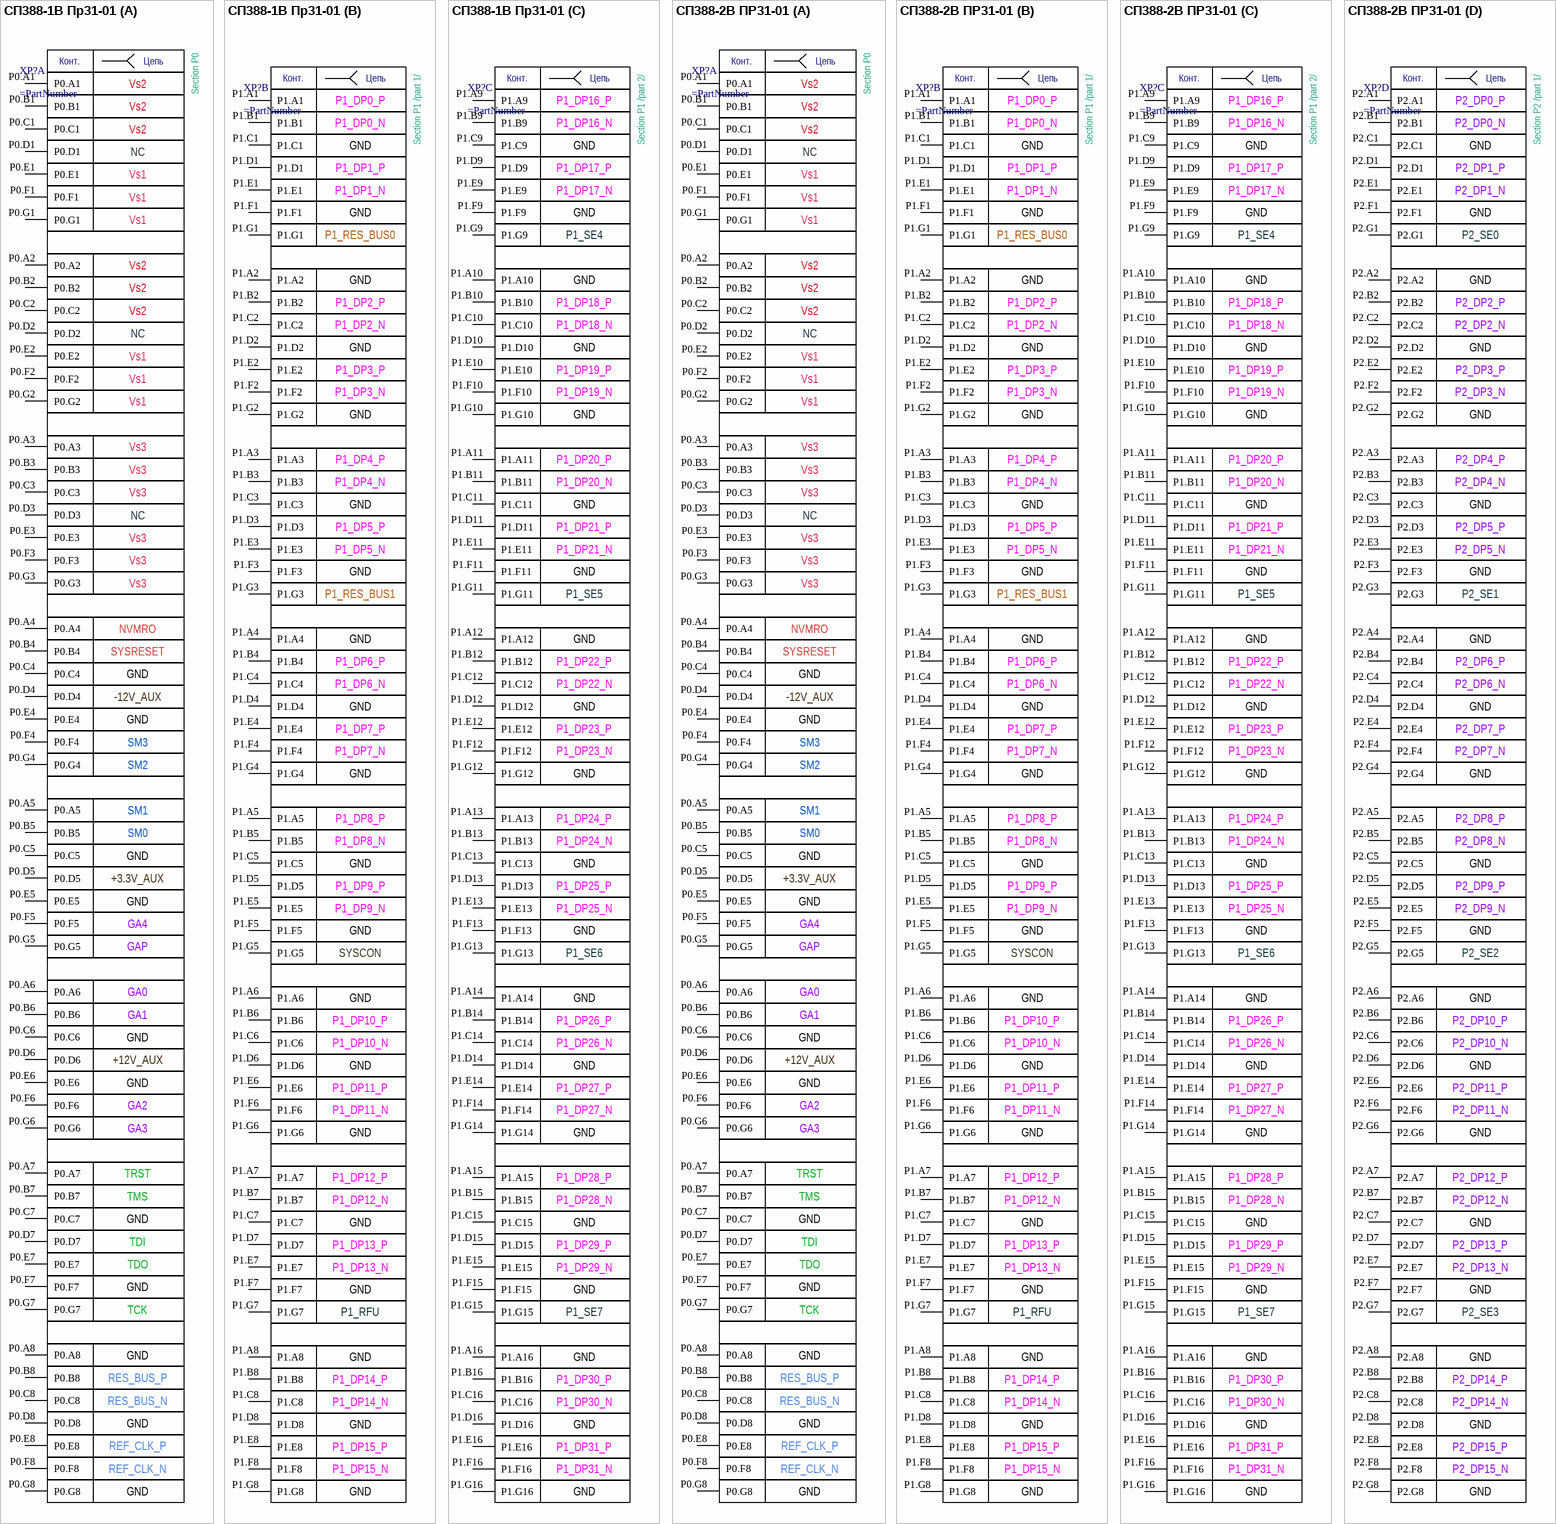
[diagram p13: symbols СП388-1В Пр31-01 to СП388-2В ПР31-01]

## СП388-1В Пр31-01
designator XP?
Socket  3U with RF Section (Section P0, P1, P2); Part Number: СП388-1В Пр31-01; ТУ: РЮМК.430420.086 ТУ
part A pins: P0.A1, P0.A2, P0.A3, P0.A4, P0.A5, P0.A6, P0.A7, P0.A8, P0.B1, P0.B2, P0.B3, P0.B4, P0.B5, P0.B6, P0.B7, P0.B8, P0.C1, P0.C2, P0.C3, P0.C4, P0.C5, P0.C6, P0.C7, P0.C8, P0.D1, P0.D2, P0.D3, P0.D4, P0.D5, P0.D6, P0.D7, P0.D8, P0.E1, P0.E2, P0.E3, P0.E4, P0.E5, P0.E6, P0.E7, P0.E8, P0.F1, P0.F2, P0.F3, P0.F4, P0.F5, P0.F6, P0.F7, P0.F8, P0.G1, P0.G2, P0.G3, P0.G4, P0.G5, P0.G6, P0.G7, P0.G8
part B pins: P1.A1, P1.A2, P1.A3, P1.A4, P1.A5, P1.A6, P1.A7, P1.A8, P1.B1, P1.B2, P1.B3, P1.B4, P1.B5, P1.B6, P1.B7, P1.B8, P1.C1, P1.C2, P1.C3, P1.C4, P1.C5, P1.C6, P1.C7, P1.C8, P1.D1, P1.D2, P1.D3, P1.D4, P1.D5, P1.D6, P1.D7, P1.D8, P1.E1, P1.E2, P1.E3, P1.E4, P1.E5, P1.E6, P1.E7, P1.E8, P1.F1, P1.F2, P1.F3, P1.F4, P1.F5, P1.F6, P1.F7, P1.F8, P1.G1, P1.G2, P1.G3, P1.G4, P1.G5, P1.G6, P1.G7, P1.G8
part C pins: P1.A9, P1.A10, P1.A11, P1.A12, P1.A13, P1.A14, P1.A15, P1.A16, P1.B9, P1.B10, P1.B11, P1.B12, P1.B13, P1.B14, P1.B15, P1.B16, P1.C9, P1.C10, P1.C11, P1.C12, P1.C13, P1.C14, P1.C15, P1.C16, P1.D9, P1.D10, P1.D11, P1.D12, P1.D13, P1.D14, P1.D15, P1.D16, P1.E9, P1.E10, P1.E11, P1.E12, P1.E13, P1.E14, P1.E15, P1.E16, P1.F9, P1.F10, P1.F11, P1.F12, P1.F13, P1.F14, P1.F15, P1.F16, P1.G9, P1.G10, P1.G11, P1.G12, P1.G13, P1.G14, P1.G15, P1.G16
part A text: Конт.; Цепь; Vs2; Section P0; NC; Vs1; Vs3; NVMRO; SYSRESET; GND; -12V_AUX; SM3; SM2; SM1; SM0; +3.3V_AUX; GA4; GAP; GA0; GA1; +12V_AUX; GA2; GA3; TRST; TMS; TDI; TDO; TCK; RES_BUS_P; RES_BUS_N; REF_CLK_P; REF_CLK_N
part B text: Конт.; Цепь; P1_DP0_P; P1_DP0_N; GND; Section P1 /part 1/; P1_DP1_P; P1_DP1_N; P1_RES_BUS0; P1_DP2_P; P1_DP2_N; P1_DP3_P; P1_DP3_N; P1_DP4_P; P1_DP4_N; P1_DP5_P; P1_DP5_N; P1_RES_BUS1; P1_DP6_P; P1_DP6_N; P1_DP7_P; P1_DP7_N; P1_DP8_P; P1_DP8_N; P1_DP9_P; P1_DP9_N; SYSCON; P1_DP10_P; P1_DP10_N; P1_DP11_P; P1_DP11_N; P1_DP12_P; P1_DP12_N; P1_DP13_P; P1_DP13_N; P1_RFU; P1_DP14_P; P1_DP14_N; P1_DP15_P; P1_DP15_N
part C text: Конт.; Цепь; P1_DP16_P; P1_DP16_N; GND; Section P1 /part 2/; P1_DP17_P; P1_DP17_N; P1_SE4; P1_DP18_P; P1_DP18_N; P1_DP19_P; P1_DP19_N; P1_DP20_P; P1_DP20_N; P1_DP21_P; P1_DP21_N; P1_SE5; P1_DP22_P; P1_DP22_N; P1_DP23_P; P1_DP23_N; P1_DP24_P; P1_DP24_N; P1_DP25_P; P1_DP25_N; P1_SE6; P1_DP26_P; P1_DP26_N; P1_DP27_P; P1_DP27_N; P1_DP28_P; P1_DP28_N; P1_DP29_P; P1_DP29_N; P1_SE7; P1_DP30_P; P1_DP30_N; P1_DP31_P; P1_DP31_N

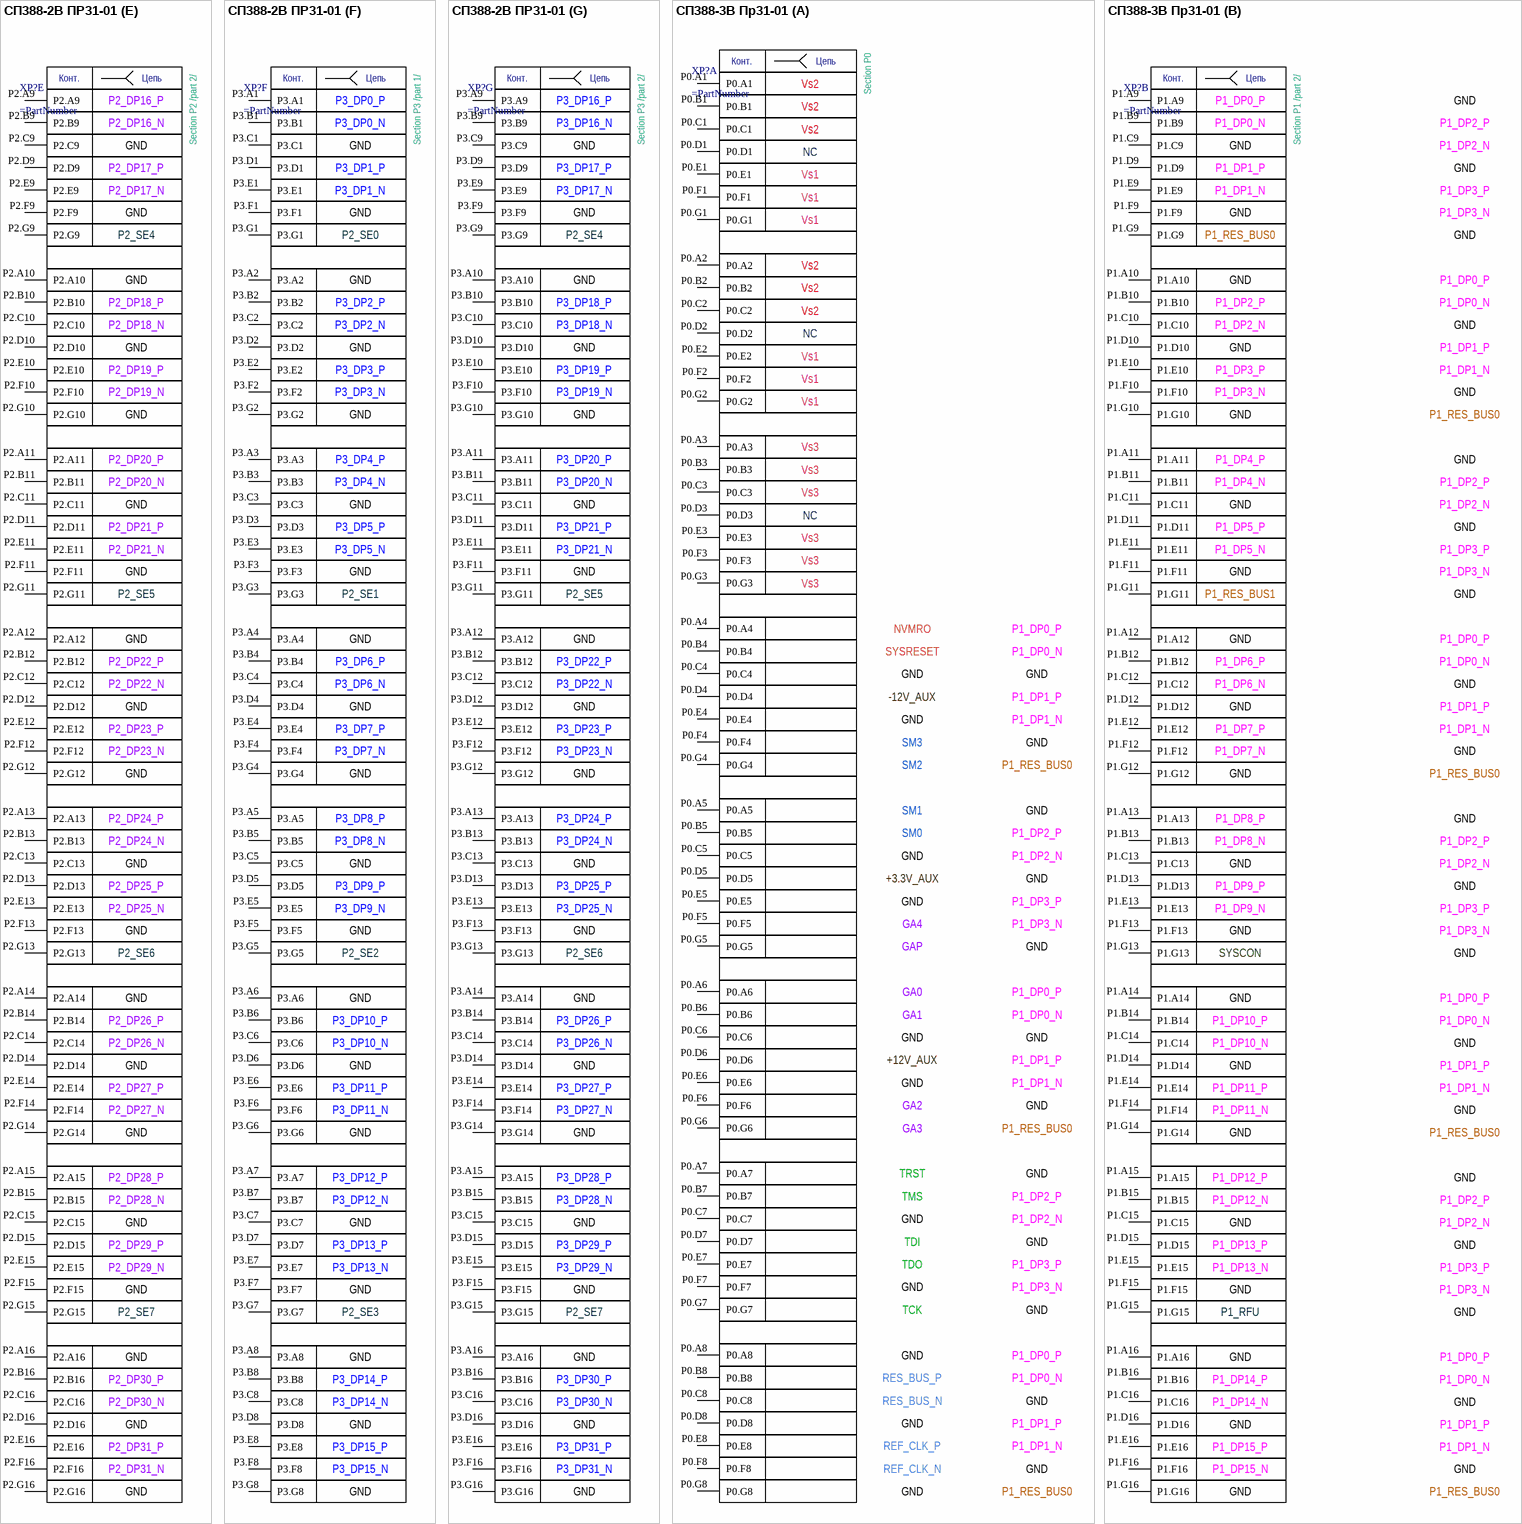
[diagram p14: symbols СП388-2В ПР31-01 to СП388-3В Пр31-01]

## СП388-2В ПР31-01
designator XP?
Socket 6U with RF Section (Section P0, P1, P2, P3); Part Number: СП388-2В ПР31-01; ТУ: РЮМК.430420.086 ТУ
part A pins: P0.A1, P0.A2, P0.A3, P0.A4, P0.A5, P0.A6, P0.A7, P0.A8, P0.B1, P0.B2, P0.B3, P0.B4, P0.B5, P0.B6, P0.B7, P0.B8, P0.C1, P0.C2, P0.C3, P0.C4, P0.C5, P0.C6, P0.C7, P0.C8, P0.D1, P0.D2, P0.D3, P0.D4, P0.D5, P0.D6, P0.D7, P0.D8, P0.E1, P0.E2, P0.E3, P0.E4, P0.E5, P0.E6, P0.E7, P0.E8, P0.F1, P0.F2, P0.F3, P0.F4, P0.F5, P0.F6, P0.F7, P0.F8, P0.G1, P0.G2, P0.G3, P0.G4, P0.G5, P0.G6, P0.G7, P0.G8
part B pins: P1.A1, P1.A2, P1.A3, P1.A4, P1.A5, P1.A6, P1.A7, P1.A8, P1.B1, P1.B2, P1.B3, P1.B4, P1.B5, P1.B6, P1.B7, P1.B8, P1.C1, P1.C2, P1.C3, P1.C4, P1.C5, P1.C6, P1.C7, P1.C8, P1.D1, P1.D2, P1.D3, P1.D4, P1.D5, P1.D6, P1.D7, P1.D8, P1.E1, P1.E2, P1.E3, P1.E4, P1.E5, P1.E6, P1.E7, P1.E8, P1.F1, P1.F2, P1.F3, P1.F4, P1.F5, P1.F6, P1.F7, P1.F8, P1.G1, P1.G2, P1.G3, P1.G4, P1.G5, P1.G6, P1.G7, P1.G8
part C pins: P1.A9, P1.A10, P1.A11, P1.A12, P1.A13, P1.A14, P1.A15, P1.A16, P1.B9, P1.B10, P1.B11, P1.B12, P1.B13, P1.B14, P1.B15, P1.B16, P1.C9, P1.C10, P1.C11, P1.C12, P1.C13, P1.C14, P1.C15, P1.C16, P1.D9, P1.D10, P1.D11, P1.D12, P1.D13, P1.D14, P1.D15, P1.D16, P1.E9, P1.E10, P1.E11, P1.E12, P1.E13, P1.E14, P1.E15, P1.E16, P1.F9, P1.F10, P1.F11, P1.F12, P1.F13, P1.F14, P1.F15, P1.F16, P1.G9, P1.G10, P1.G11, P1.G12, P1.G13, P1.G14, P1.G15, P1.G16
part D pins: P2.A1, P2.A2, P2.A3, P2.A4, P2.A5, P2.A6, P2.A7, P2.A8, P2.B1, P2.B2, P2.B3, P2.B4, P2.B5, P2.B6, P2.B7, P2.B8, P2.C1, P2.C2, P2.C3, P2.C4, P2.C5, P2.C6, P2.C7, P2.C8, P2.D1, P2.D2, P2.D3, P2.D4, P2.D5, P2.D6, P2.D7, P2.D8, P2.E1, P2.E2, P2.E3, P2.E4, P2.E5, P2.E6, P2.E7, P2.E8, P2.F1, P2.F2, P2.F3, P2.F4, P2.F5, P2.F6, P2.F7, P2.F8, P2.G1, P2.G2, P2.G3, P2.G4, P2.G5, P2.G6, P2.G7, P2.G8
part E pins: P2.A9, P2.A10, P2.A11, P2.A12, P2.A13, P2.A14, P2.A15, P2.A16, P2.B9, P2.B10, P2.B11, P2.B12, P2.B13, P2.B14, P2.B15, P2.B16, P2.C9, P2.C10, P2.C11, P2.C12, P2.C13, P2.C14, P2.C15, P2.C16, P2.D9, P2.D10, P2.D11, P2.D12, P2.D13, P2.D14, P2.D15, P2.D16, P2.E9, P2.E10, P2.E11, P2.E12, P2.E13, P2.E14, P2.E15, P2.E16, P2.F9, P2.F10, P2.F11, P2.F12, P2.F13, P2.F14, P2.F15, P2.F16, P2.G9, P2.G10, P2.G11, P2.G12, P2.G13, P2.G14, P2.G15, P2.G16
part F pins: P3.A1, P3.A2, P3.A3, P3.A4, P3.A5, P3.A6, P3.A7, P3.A8, P3.B1, P3.B2, P3.B3, P3.B4, P3.B5, P3.B6, P3.B7, P3.B8, P3.C1, P3.C2, P3.C3, P3.C4, P3.C5, P3.C6, P3.C7, P3.C8, P3.D1, P3.D2, P3.D3, P3.D4, P3.D5, P3.D6, P3.D7, P3.D8, P3.E1, P3.E2, P3.E3, P3.E4, P3.E5, P3.E6, P3.E7, P3.E8, P3.F1, P3.F2, P3.F3, P3.F4, P3.F5, P3.F6, P3.F7, P3.F8, P3.G1, P3.G2, P3.G3, P3.G4, P3.G5, P3.G6, P3.G7, P3.G8
part G pins: P3.A9, P3.A10, P3.A11, P3.A12, P3.A13, P3.A14, P3.A15, P3.A16, P3.B9, P3.B10, P3.B11, P3.B12, P3.B13, P3.B14, P3.B15, P3.B16, P3.C9, P3.C10, P3.C11, P3.C12, P3.C13, P3.C14, P3.C15, P3.C16, P3.D9, P3.D10, P3.D11, P3.D12, P3.D13, P3.D14, P3.D15, P3.D16, P3.E9, P3.E10, P3.E11, P3.E12, P3.E13, P3.E14, P3.E15, P3.E16, P3.F9, P3.F10, P3.F11, P3.F12, P3.F13, P3.F14, P3.F15, P3.F16, P3.G9, P3.G10, P3.G11, P3.G12, P3.G13, P3.G14, P3.G15, P3.G16
part A text: Конт.; Цепь; Vs2; Section P0; NC; Vs1; Vs3; NVMRO; SYSRESET; GND; -12V_AUX; SM3; SM2; SM1; SM0; +3.3V_AUX; GA4; GAP; GA0; GA1; +12V_AUX; GA2; GA3; TRST; TMS; TDI; TDO; TCK; RES_BUS_P; RES_BUS_N; REF_CLK_P; REF_CLK_N
part B text: Конт.; Цепь; P1_DP0_P; P1_DP0_N; GND; Section P1 /part 1/; P1_DP1_P; P1_DP1_N; P1_RES_BUS0; P1_DP2_P; P1_DP2_N; P1_DP3_P; P1_DP3_N; P1_DP4_P; P1_DP4_N; P1_DP5_P; P1_DP5_N; P1_RES_BUS1; P1_DP6_P; P1_DP6_N; P1_DP7_P; P1_DP7_N; P1_DP8_P; P1_DP8_N; P1_DP9_P; P1_DP9_N; SYSCON; P1_DP10_P; P1_DP10_N; P1_DP11_P; P1_DP11_N; P1_DP12_P; P1_DP12_N; P1_DP13_P; P1_DP13_N; P1_RFU; P1_DP14_P; P1_DP14_N; P1_DP15_P; P1_DP15_N
part C text: Конт.; Цепь; P1_DP16_P; P1_DP16_N; GND; Section P1 /part 2/; P1_DP17_P; P1_DP17_N; P1_SE4; P1_DP18_P; P1_DP18_N; P1_DP19_P; P1_DP19_N; P1_DP20_P; P1_DP20_N; P1_DP21_P; P1_DP21_N; P1_SE5; P1_DP22_P; P1_DP22_N; P1_DP23_P; P1_DP23_N; P1_DP24_P; P1_DP24_N; P1_DP25_P; P1_DP25_N; P1_SE6; P1_DP26_P; P1_DP26_N; P1_DP27_P; P1_DP27_N; P1_DP28_P; P1_DP28_N; P1_DP29_P; P1_DP29_N; P1_SE7; P1_DP30_P; P1_DP30_N; P1_DP31_P; P1_DP31_N
part D text: Конт.; Цепь; P2_DP0_P; P2_DP0_N; GND; Section P2 /part 1/; P2_DP1_P; P2_DP1_N; P2_SE0; P2_DP2_P; P2_DP2_N; P2_DP3_P; P2_DP3_N; P2_DP4_P; P2_DP4_N; P2_DP5_P; P2_DP5_N; P2_SE1; P2_DP6_P; P2_DP6_N; P2_DP7_P; P2_DP7_N; P2_DP8_P; P2_DP8_N; P2_DP9_P; P2_DP9_N; P2_SE2; P2_DP10_P; P2_DP10_N; P2_DP11_P; P2_DP11_N; P2_DP12_P; P2_DP12_N; P2_DP13_P; P2_DP13_N; P2_SE3; P2_DP14_P; P2_DP14_N; P2_DP15_P; P2_DP15_N
part E text: Конт.; Цепь; P2_DP16_P; P2_DP16_N; GND; Section P2 /part 2/; P2_DP17_P; P2_DP17_N; P2_SE4; P2_DP18_P; P2_DP18_N; P2_DP19_P; P2_DP19_N; P2_DP20_P; P2_DP20_N; P2_DP21_P; P2_DP21_N; P2_SE5; P2_DP22_P; P2_DP22_N; P2_DP23_P; P2_DP23_N; P2_DP24_P; P2_DP24_N; P2_DP25_P; P2_DP25_N; P2_SE6; P2_DP26_P; P2_DP26_N; P2_DP27_P; P2_DP27_N; P2_DP28_P; P2_DP28_N; P2_DP29_P; P2_DP29_N; P2_SE7; P2_DP30_P; P2_DP30_N; P2_DP31_P; P2_DP31_N
part F text: Конт.; Цепь; P3_DP0_P; P3_DP0_N; GND; Section P3 /part 1/; P3_DP1_P; P3_DP1_N; P2_SE0; P3_DP2_P; P3_DP2_N; P3_DP3_P; P3_DP3_N; P3_DP4_P; P3_DP4_N; P3_DP5_P; P3_DP5_N; P2_SE1; P3_DP6_P; P3_DP6_N; P3_DP7_P; P3_DP7_N; P3_DP8_P; P3_DP8_N; P3_DP9_P; P3_DP9_N; P2_SE2; P3_DP10_P; P3_DP10_N; P3_DP11_P; P3_DP11_N; P3_DP12_P; P3_DP12_N; P3_DP13_P; P3_DP13_N; P2_SE3; P3_DP14_P; P3_DP14_N; P3_DP15_P; P3_DP15_N
part G text: Конт.; Цепь; P3_DP16_P; P3_DP16_N; GND; Section P3 /part 2/; P3_DP17_P; P3_DP17_N; P2_SE4; P3_DP18_P; P3_DP18_N; P3_DP19_P; P3_DP19_N; P3_DP20_P; P3_DP20_N; P3_DP21_P; P3_DP21_N; P2_SE5; P3_DP22_P; P3_DP22_N; P3_DP23_P; P3_DP23_N; P3_DP24_P; P3_DP24_N; P3_DP25_P; P3_DP25_N; P2_SE6; P3_DP26_P; P3_DP26_N; P3_DP27_P; P3_DP27_N; P3_DP28_P; P3_DP28_N; P3_DP29_P; P3_DP29_N; P2_SE7; P3_DP30_P; P3_DP30_N; P3_DP31_P; P3_DP31_N

## СП388-3В Пр31-01
designator XP?
Socket  3U (Section P0, P1, P2); Part Number: СП388-3В Пр31-01; ТУ: РЮМК.430420.086 ТУ
part A pins: P0.A1, P0.A2, P0.A3, P0.A4, P0.A5, P0.A6, P0.A7, P0.A8, P0.B1, P0.B2, P0.B3, P0.B4, P0.B5, P0.B6, P0.B7, P0.B8, P0.C1, P0.C2, P0.C3, P0.C4, P0.C5, P0.C6, P0.C7, P0.C8, P0.D1, P0.D2, P0.D3, P0.D4, P0.D5, P0.D6, P0.D7, P0.D8, P0.E1, P0.E2, P0.E3, P0.E4, P0.E5, P0.E6, P0.E7, P0.E8, P0.F1, P0.F2, P0.F3, P0.F4, P0.F5, P0.F6, P0.F7, P0.F8, P0.G1, P0.G2, P0.G3, P0.G4, P0.G5, P0.G6, P0.G7, P0.G8
part B pins: P1.A9, P1.A10, P1.A11, P1.A12, P1.A13, P1.A14, P1.A15, P1.A16, P1.B9, P1.B10, P1.B11, P1.B12, P1.B13, P1.B14, P1.B15, P1.B16, P1.C9, P1.C10, P1.C11, P1.C12, P1.C13, P1.C14, P1.C15, P1.C16, P1.D9, P1.D10, P1.D11, P1.D12, P1.D13, P1.D14, P1.D15, P1.D16, P1.E9, P1.E10, P1.E11, P1.E12, P1.E13, P1.E14, P1.E15, P1.E16, P1.F9, P1.F10, P1.F11, P1.F12, P1.F13, P1.F14, P1.F15, P1.F16, P1.G9, P1.G10, P1.G11, P1.G12, P1.G13, P1.G14, P1.G15, P1.G16
part A text: Конт.; Цепь; Vs2; Section P0; NC; Vs1; Vs3; NVMRO; P1_DP0_P; SYSRESET; P1_DP0_N; GND; -12V_AUX; P1_DP1_P; P1_DP1_N; SM3; SM2; P1_RES_BUS0; SM1; SM0; P1_DP2_P; P1_DP2_N; +3.3V_AUX; P1_DP3_P; GA4; P1_DP3_N; GAP; GA0; GA1; +12V_AUX; GA2; GA3; TRST; TMS; TDI; TDO; TCK; RES_BUS_P; RES_BUS_N; REF_CLK_P; REF_CLK_N
part B text: Конт.; Цепь; P1_DP0_P; GND; P1_DP0_N; P1_DP2_P; Section P1 /part 2/; P1_DP2_N; P1_DP1_P; P1_DP1_N; P1_DP3_P; P1_DP3_N; P1_RES_BUS0; P1_DP4_P; P1_DP4_N; P1_DP5_P; P1_DP5_N; P1_RES_BUS1; P1_DP6_P; P1_DP6_N; P1_DP7_P; P1_DP7_N; P1_DP8_P; P1_DP8_N; P1_DP9_P; P1_DP9_N; SYSCON; P1_DP10_P; P1_DP10_N; P1_DP11_P; P1_DP11_N; P1_DP12_P; P1_DP12_N; P1_DP13_P; P1_DP13_N; P1_RFU; P1_DP14_P; P1_DP14_N; P1_DP15_P; P1_DP15_N

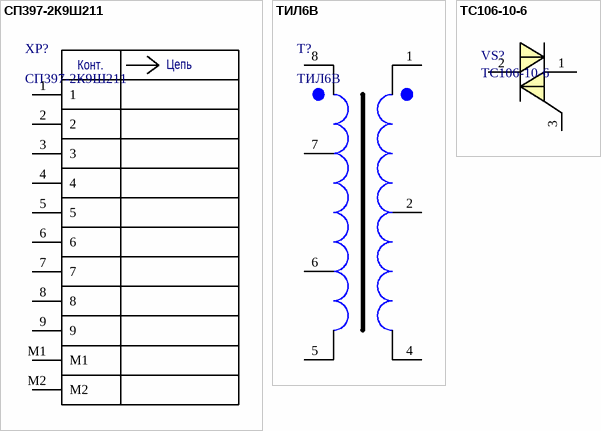
[diagram p15: symbols СП397-2К9Ш211 to ТС106-10-6]

## СП397-2К9Ш211
designator XP?
Value: СП397-2К9Ш211
footprint SP397-2K9SH211
pins: 1, 2, 3, 4, 5, 6, 7, 8, 9, M1, M2
text: Конт.; Цепь

## ТИЛ6В
designator T?
Трансформатор для канала связи ГОСТ Р 52070-2003; Part Number: ТИЛ6В
footprint TIL6
pins: 1, 2, 4, 5, 6, 7, 8

## ТС106-10-6
designator VS?
TRIAC 10A 600V; Manufacturer: ОАО "СЗТП"; Part Number: ТС106-10-6
footprint TO-220A-3
footprint TO-220A-3 (HORIZONTAL)
footprint TO-220A-3 (HORIZONTAL, 1.2MM)
pins: 1, 2, 3